# Altium schematic symbol library MCU_Microchip_ATtiny.SchLib: 223 symbols (part 2 of 4)
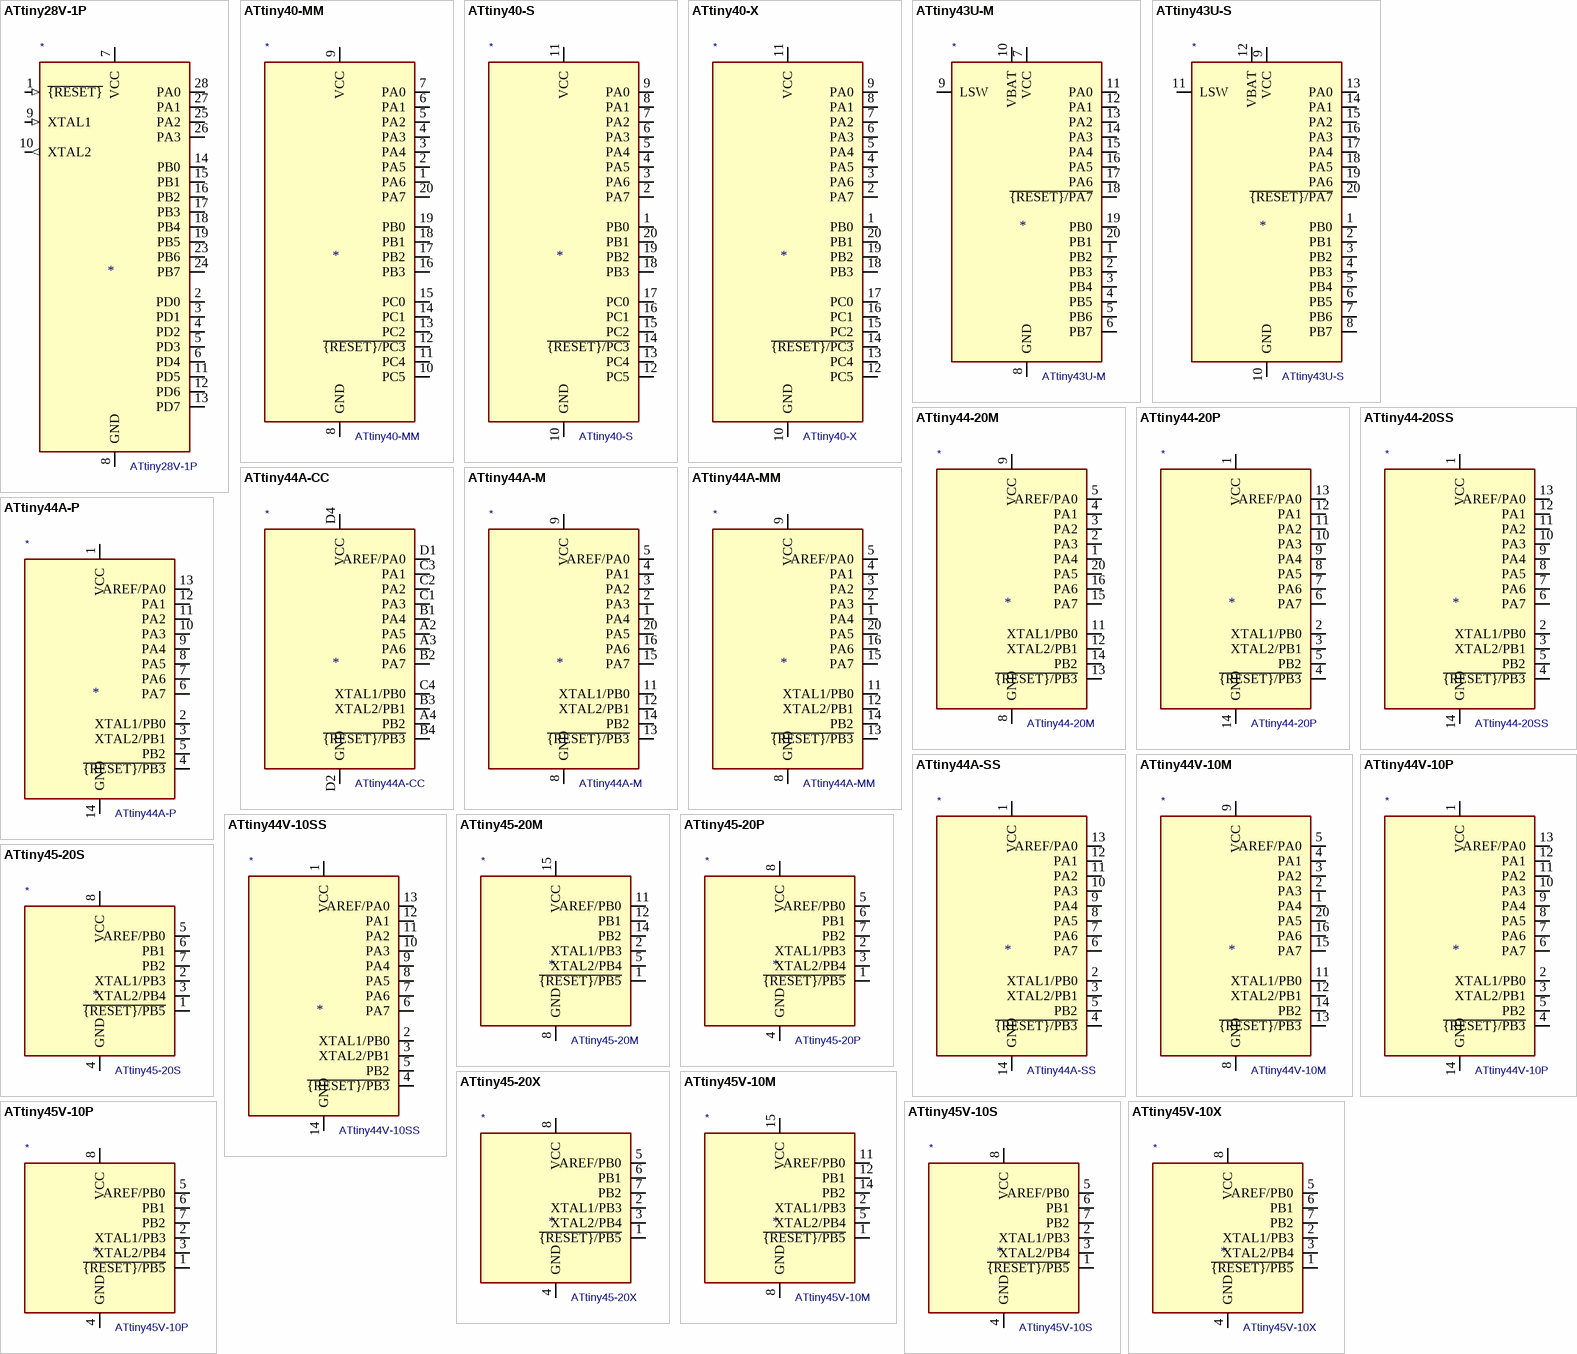
[diagram p10: symbols ATtiny28V-1P to ATtiny45V-10X]

## ATtiny45-20X
designator *  value ATtiny45-20X
ki_keywords: AVR 8bit Microcontroller tinyAVR; ki_description: 20MHz, 4kB Flash, 256B SRAM, 256B EEPROM, debugWIRE, TSSOP-8; ki_fp_filters: TSSOP*4.4x3mm*P0.65mm*; Footprint: Package_SO:TSSOP-8_4.4x3mm_P0.65mm; Supplier: http://ww1.microchip.com/downloads/en/DeviceDoc/atmel-2586-avr-8-bit-microcontroller-attiny25-attiny45-attiny85_datasheet.pdf
footprint TSSOP-8_4.4x3mm_P0.65mm
pins: 1 ~{{RESET}/PB5} (io), 2 XTAL1/PB3 (io), 3 XTAL2/PB4 (io), 4 GND (power), 5 AREF/PB0 (io), 6 PB1 (io), 7 PB2 (io), 8 VCC (power)

## ATtiny45V-10M
designator *  value ATtiny45V-10M
ki_keywords: AVR 8bit Microcontroller tinyAVR; ki_description: 10MHz, 4kB Flash, 256B SRAM, 256B EEPROM, debugWIRE, QFN-20; ki_fp_filters: QFN*1EP*4x4mm*P0.5mm*; Footprint: Package_DFN_QFN:QFN-20-1EP_4x4mm_P0.5mm_EP2.6x2.6mm; Supplier: http://ww1.microchip.com/downloads/en/DeviceDoc/atmel-2586-avr-8-bit-microcontroller-attiny25-attiny45-attiny85_datasheet.pdf
footprint QFN-20-1EP_4x4mm_P0.5mm_EP2.6x2.6mm
pins: 1 ~{{RESET}/PB5} (io), 2 XTAL1/PB3 (io), 3 NC (in) hidden, 4 NC (in) hidden, 5 XTAL2/PB4 (io), 6 NC (in) hidden, 7 NC (in) hidden, 8 GND (power), 9 NC (in) hidden, 10 NC (in) hidden, 11 AREF/PB0 (io), 12 PB1 (io), 13 NC (in) hidden, 14 PB2 (io), 15 VCC (power), 16 NC (in) hidden, 17 NC (in) hidden, 18 NC (in) hidden, 19 NC (in) hidden, 20 NC (in) hidden, 21 GND hidden

## ATtiny45V-10P
designator *  value ATtiny45V-10P
ki_keywords: AVR 8bit Microcontroller tinyAVR; ki_description: 10MHz, 4kB Flash, 256B SRAM, 256B EEPROM, debugWIRE, DIP-8; ki_fp_filters: DIP*W7.62mm*; Footprint: Package_DIP:DIP-8_W7.62mm; Supplier: http://ww1.microchip.com/downloads/en/DeviceDoc/atmel-2586-avr-8-bit-microcontroller-attiny25-attiny45-attiny85_datasheet.pdf
footprint DIP-8_W7.62mm
pins: 1 ~{{RESET}/PB5} (io), 2 XTAL1/PB3 (io), 3 XTAL2/PB4 (io), 4 GND (power), 5 AREF/PB0 (io), 6 PB1 (io), 7 PB2 (io), 8 VCC (power)

## ATtiny45V-10S
designator *  value ATtiny45V-10S
ki_keywords: AVR 8bit Microcontroller tinyAVR; ki_description: 10MHz, 4kB Flash, 256B SRAM, 256B EEPROM, debugWIRE, SOIC-8W; ki_fp_filters: SOIC*5.3x5.3mm*P1.27mm*; Footprint: Package_SO:SOIC-8W_5.3x5.3mm_P1.27mm; Supplier: http://ww1.microchip.com/downloads/en/DeviceDoc/atmel-2586-avr-8-bit-microcontroller-attiny25-attiny45-attiny85_datasheet.pdf
footprint SOIC-8W_5.3x5.3mm_P1.27mm
pins: 1 ~{{RESET}/PB5} (io), 2 XTAL1/PB3 (io), 3 XTAL2/PB4 (io), 4 GND (power), 5 AREF/PB0 (io), 6 PB1 (io), 7 PB2 (io), 8 VCC (power)

## ATtiny45V-10X
designator *  value ATtiny45V-10X
ki_keywords: AVR 8bit Microcontroller tinyAVR; ki_description: 10MHz, 4kB Flash, 256B SRAM, 256B EEPROM, debugWIRE, TSSOP-8; ki_fp_filters: TSSOP*4.4x3mm*P0.65mm*; Footprint: Package_SO:TSSOP-8_4.4x3mm_P0.65mm; Supplier: http://ww1.microchip.com/downloads/en/DeviceDoc/atmel-2586-avr-8-bit-microcontroller-attiny25-attiny45-attiny85_datasheet.pdf
footprint TSSOP-8_4.4x3mm_P0.65mm
pins: 1 ~{{RESET}/PB5} (io), 2 XTAL1/PB3 (io), 3 XTAL2/PB4 (io), 4 GND (power), 5 AREF/PB0 (io), 6 PB1 (io), 7 PB2 (io), 8 VCC (power)

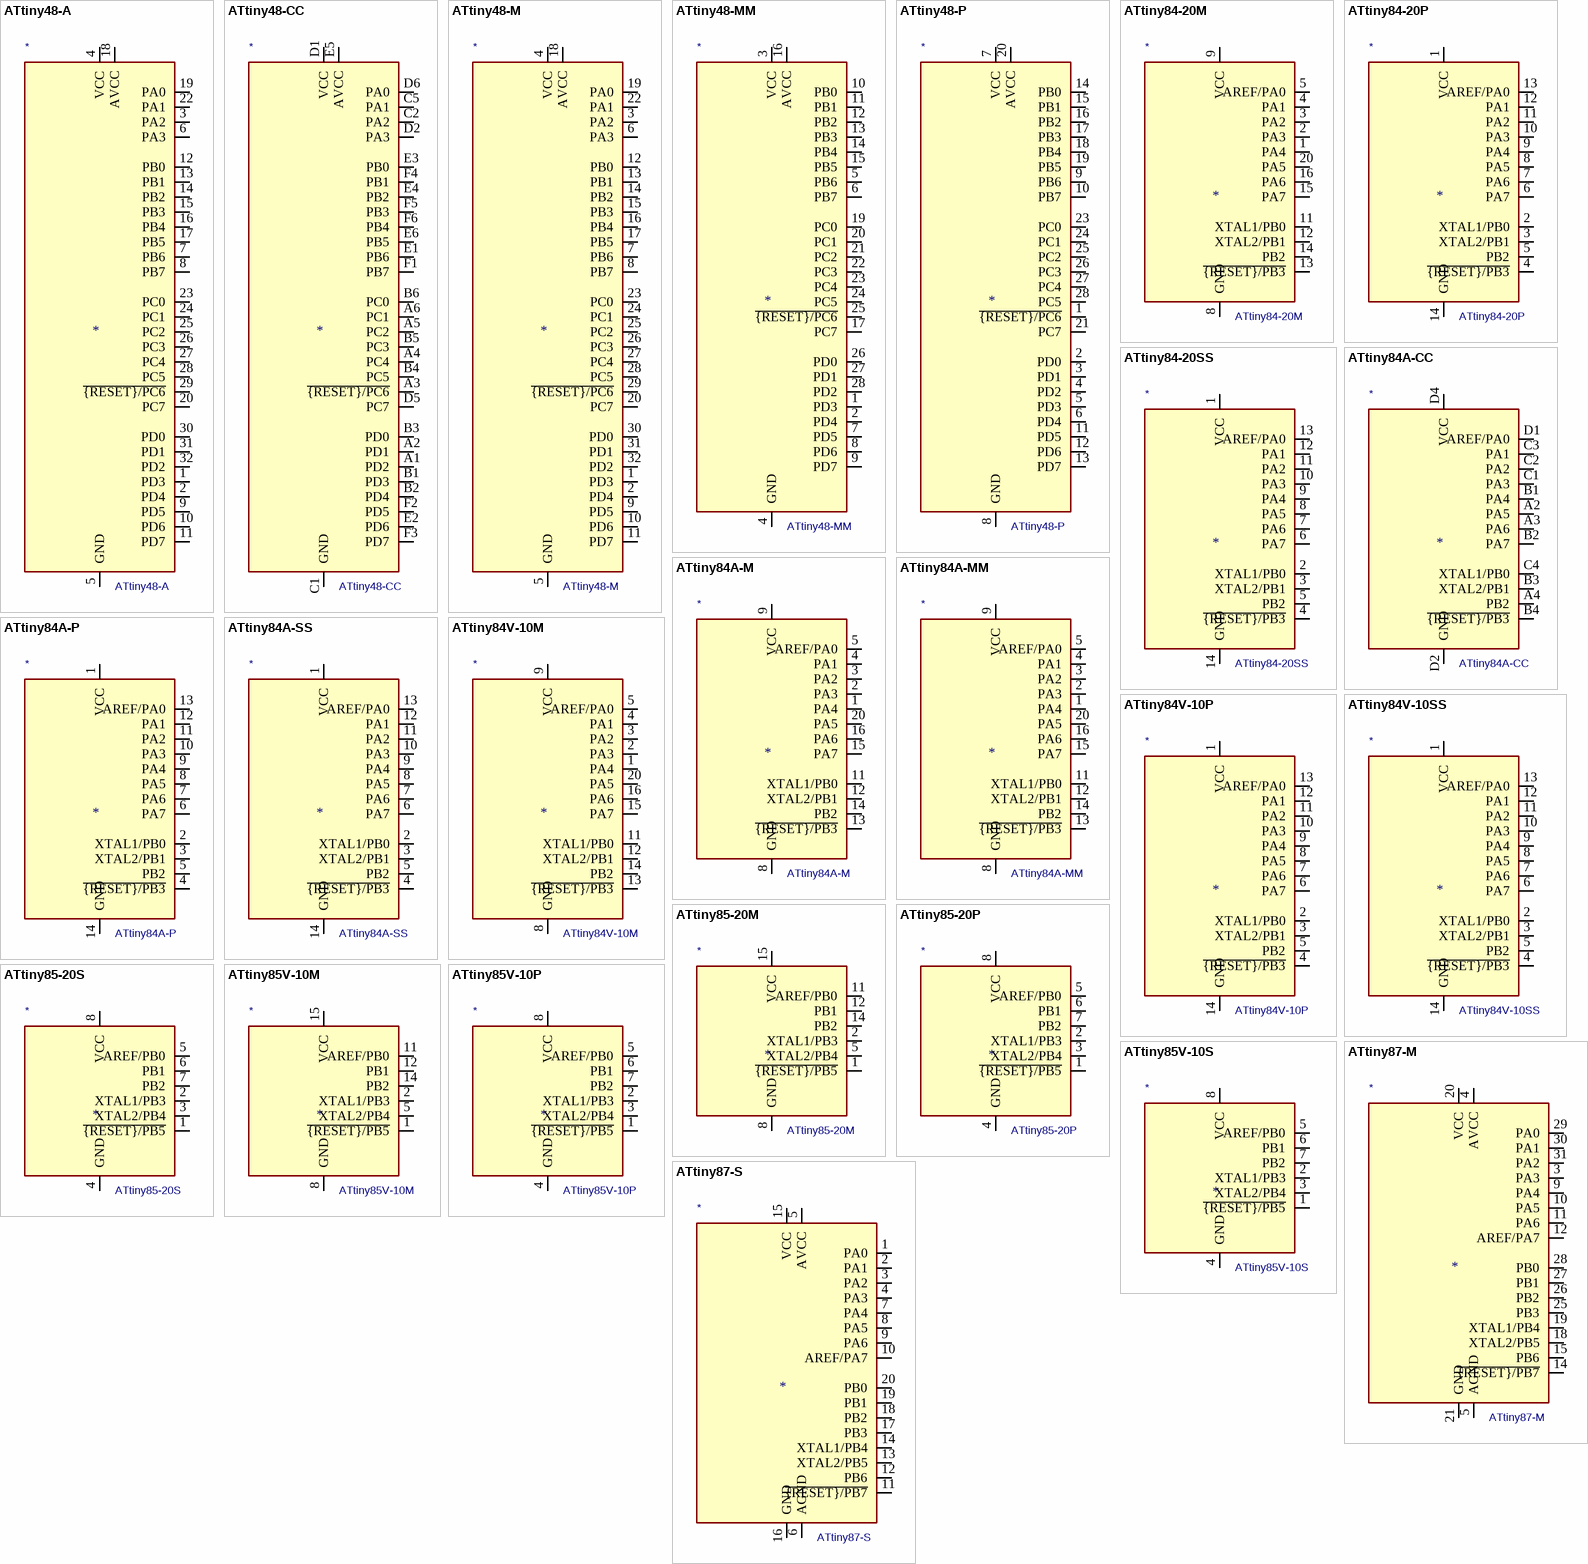
[diagram p3: symbols ATtiny48-A to ATtiny87-S]

## ATtiny48-A
designator *  value ATtiny48-A
ki_keywords: AVR 8bit Microcontroller tinyAVR; ki_description: 12MHz, 4kB Flash, 256B SRAM, 64B EEPROM, TQFP-32; ki_fp_filters: TQFP*7x7mm*P0.8mm*; Footprint: Package_QFP:TQFP-32_7x7mm_P0.8mm; Supplier: http://ww1.microchip.com/downloads/en/DeviceDoc/doc8008.pdf
footprint TQFP-32_7x7mm_P0.8mm
pins: 1 PD3 (io), 2 PD4 (io), 3 PA2 (io), 4 VCC (power), 5 GND (power), 6 PA3 (io), 7 PB6 (io), 8 PB7 (io), 9 PD5 (io), 10 PD6 (io), 11 PD7 (io), 12 PB0 (io), 13 PB1 (io), 14 PB2 (io), 15 PB3 (io), 16 PB4 (io), 17 PB5 (io), 18 AVCC (power), 19 PA0 (io), 20 PC7 (io), 21 GND hidden, 22 PA1 (io), 23 PC0 (io), 24 PC1 (io), 25 PC2 (io), 26 PC3 (io), 27 PC4 (io), 28 PC5 (io), 29 ~{{RESET}/PC6} (io), 30 PD0 (io), 31 PD1 (io), 32 PD2 (io)

## ATtiny48-CC
designator *  value ATtiny48-CC
ki_keywords: AVR 8bit Microcontroller tinyAVR; ki_description: 12MHz, 4kB Flash, 256B SRAM, 64B EEPROM, UFBGA-32; ki_fp_filters: UFBGA*4.0x4.0mm*Layout6x6*P0.5mm*; Footprint: Package_BGA:UFBGA-32_4.0x4.0mm_Layout6x6_P0.5mm; Supplier: http://ww1.microchip.com/downloads/en/DeviceDoc/doc8008.pdf
footprint UFBGA-32_4.0x4.0mm_Layout6x6_P0.5mm
pins: A1 PD2 (io), A2 PD1 (io), A3 ~{{RESET}/PC6} (io), A4 PC4 (io), A5 PC2 (io), A6 PC1 (io), B1 PD3 (io), B2 PD4 (io), B3 PD0 (io), B4 PC5 (io), B5 PC3 (io), B6 PC0 (io), C1 GND (power), C2 PA2 (io), C5 PA1 (io), C6 GND hidden, D1 VCC (power), D2 PA3 (io), D5 PC7 (io), D6 PA0 (io), E1 PB6 (io), E2 PD6 (io), E3 PB0 (io), E4 PB2 (io), E5 AVCC (power), E6 PB5 (io), F1 PB7 (io), F2 PD5 (io), F3 PD7 (io), F4 PB1 (io), F5 PB3 (io), F6 PB4 (io)

## ATtiny48-M
designator *  value ATtiny48-M
ki_keywords: AVR 8bit Microcontroller tinyAVR; ki_description: 12MHz, 4kB Flash, 256B SRAM, 64B EEPROM, QFN-32; ki_fp_filters: QFN*1EP*5x5mm*P0.5mm*; Footprint: Package_DFN_QFN:QFN-32-1EP_5x5mm_P0.5mm_EP3.1x3.1mm; Supplier: http://ww1.microchip.com/downloads/en/DeviceDoc/doc8008.pdf
footprint QFN-32-1EP_5x5mm_P0.5mm_EP3.1x3.1mm
pins: 1 PD3 (io), 2 PD4 (io), 3 PA2 (io), 4 VCC (power), 5 GND (power), 6 PA3 (io), 7 PB6 (io), 8 PB7 (io), 9 PD5 (io), 10 PD6 (io), 11 PD7 (io), 12 PB0 (io), 13 PB1 (io), 14 PB2 (io), 15 PB3 (io), 16 PB4 (io), 17 PB5 (io), 18 AVCC (power), 19 PA0 (io), 20 PC7 (io), 21 GND hidden, 22 PA1 (io), 23 PC0 (io), 24 PC1 (io), 25 PC2 (io), 26 PC3 (io), 27 PC4 (io), 28 PC5 (io), 29 ~{{RESET}/PC6} (io), 30 PD0 (io), 31 PD1 (io), 32 PD2 (io), 33 GND hidden

## ATtiny48-MM
designator *  value ATtiny48-MM
ki_keywords: AVR 8bit Microcontroller tinyAVR; ki_description: 12MHz, 4kB Flash, 256B SRAM, 64B EEPROM, QFN-28; ki_fp_filters: QFN*1EP*4x4mm*P0.45mm*; Footprint: Package_DFN_QFN:QFN-28-1EP_4x4mm_P0.45mm_EP2.4x2.4mm; Supplier: http://ww1.microchip.com/downloads/en/DeviceDoc/doc8008.pdf
footprint QFN-28-1EP_4x4mm_P0.45mm_EP2.4x2.4mm
pins: 1 PD3 (io), 2 PD4 (io), 3 VCC (power), 4 GND (power), 5 PB6 (io), 6 PB7 (io), 7 PD5 (io), 8 PD6 (io), 9 PD7 (io), 10 PB0 (io), 11 PB1 (io), 12 PB2 (io), 13 PB3 (io), 14 PB4 (io), 15 PB5 (io), 16 AVCC (power), 17 PC7 (io), 18 GND hidden, 19 PC0 (io), 20 PC1 (io), 21 PC2 (io), 22 PC3 (io), 23 PC4 (io), 24 PC5 (io), 25 ~{{RESET}/PC6} (io), 26 PD0 (io), 27 PD1 (io), 28 PD2 (io), 29 GND hidden

## ATtiny48-P
designator *  value ATtiny48-P
ki_keywords: AVR 8bit Microcontroller tinyAVR; ki_description: 12MHz, 4kB Flash, 256B SRAM, 64B EEPROM, DIP-28; ki_fp_filters: DIP*W7.62mm*; Footprint: Package_DIP:DIP-28_W7.62mm; Supplier: http://ww1.microchip.com/downloads/en/DeviceDoc/doc8008.pdf
footprint DIP-28_W7.62mm
pins: 1 ~{{RESET}/PC6} (io), 2 PD0 (io), 3 PD1 (io), 4 PD2 (io), 5 PD3 (io), 6 PD4 (io), 7 VCC (power), 8 GND (power), 9 PB6 (io), 10 PB7 (io), 11 PD5 (io), 12 PD6 (io), 13 PD7 (io), 14 PB0 (io), 15 PB1 (io), 16 PB2 (io), 17 PB3 (io), 18 PB4 (io), 19 PB5 (io), 20 AVCC (power), 21 PC7 (io), 22 GND hidden, 23 PC0 (io), 24 PC1 (io), 25 PC2 (io), 26 PC3 (io), 27 PC4 (io), 28 PC5 (io)

## ATtiny84-20M
designator *  value ATtiny84-20M
ki_keywords: AVR 8bit Microcontroller tinyAVR; ki_description: 20MHz, 8kB Flash, 512B SRAM, 512B EEPROM, debugWIRE, QFN-20; ki_fp_filters: QFN*1EP*4x4mm*P0.5mm*; Footprint: Package_DFN_QFN:QFN-20-1EP_4x4mm_P0.5mm_EP2.6x2.6mm; Supplier: http://ww1.microchip.com/downloads/en/DeviceDoc/doc8006.pdf
footprint QFN-20-1EP_4x4mm_P0.5mm_EP2.6x2.6mm
pins: 1 PA4 (io), 2 PA3 (io), 3 PA2 (io), 4 PA1 (io), 5 AREF/PA0 (io), 6 NC (in) hidden, 7 NC (in) hidden, 8 GND (power), 9 VCC (power), 10 NC (in) hidden, 11 XTAL1/PB0 (io), 12 XTAL2/PB1 (io), 13 ~{{RESET}/PB3} (io), 14 PB2 (io), 15 PA7 (io), 16 PA6 (io), 17 NC (in) hidden, 18 NC (in) hidden, 19 NC (in) hidden, 20 PA5 (io), 21 GND hidden

## ATtiny84-20P
designator *  value ATtiny84-20P
ki_keywords: AVR 8bit Microcontroller tinyAVR; ki_description: 20MHz, 8kB Flash, 512B SRAM, 512B EEPROM, debugWIRE, DIP-14; ki_fp_filters: DIP*W7.62mm*; Footprint: Package_DIP:DIP-14_W7.62mm; Supplier: http://ww1.microchip.com/downloads/en/DeviceDoc/doc8006.pdf
footprint DIP-14_W7.62mm
pins: 1 VCC (power), 2 XTAL1/PB0 (io), 3 XTAL2/PB1 (io), 4 ~{{RESET}/PB3} (io), 5 PB2 (io), 6 PA7 (io), 7 PA6 (io), 8 PA5 (io), 9 PA4 (io), 10 PA3 (io), 11 PA2 (io), 12 PA1 (io), 13 AREF/PA0 (io), 14 GND (power)

## ATtiny84-20SS
designator *  value ATtiny84-20SS
ki_keywords: AVR 8bit Microcontroller tinyAVR; ki_description: 20MHz, 8kB Flash, 512B SRAM, 512B EEPROM, debugWIRE, SOIC-14; ki_fp_filters: SOIC*3.9x8.7mm*P1.27mm*; Footprint: Package_SO:SOIC-14_3.9x8.7mm_P1.27mm; Supplier: http://ww1.microchip.com/downloads/en/DeviceDoc/doc8006.pdf
footprint SOIC-14_3.9x8.7mm_P1.27mm
pins: 1 VCC (power), 2 XTAL1/PB0 (io), 3 XTAL2/PB1 (io), 4 ~{{RESET}/PB3} (io), 5 PB2 (io), 6 PA7 (io), 7 PA6 (io), 8 PA5 (io), 9 PA4 (io), 10 PA3 (io), 11 PA2 (io), 12 PA1 (io), 13 AREF/PA0 (io), 14 GND (power)

## ATtiny84A-CC
designator *  value ATtiny84A-CC
ki_keywords: AVR 8bit Microcontroller tinyAVR; ki_description: 20MHz, 8kB Flash, 512B SRAM, 512B EEPROM, debugWIRE, UFBGA-15; ki_fp_filters: UFBGA*3.0x3.0mm*Layout4x4*P0.65mm*; Footprint: Package_BGA:UFBGA-15_3.0x3.0mm_Layout4x4_P0.65mm; Supplier: http://ww1.microchip.com/downloads/en/DeviceDoc/doc8183.pdf
footprint UFBGA-15_3.0x3.0mm_Layout4x4_P0.65mm
pins: A2 PA5 (io), A3 PA6 (io), A4 PB2 (io), B1 PA4 (io), B2 PA7 (io), B3 XTAL2/PB1 (io), B4 ~{{RESET}/PB3} (io), C1 PA3 (io), C2 PA2 (io), C3 PA1 (io), C4 XTAL1/PB0 (io), D1 AREF/PA0 (io), D2 GND (power), D3 GND hidden, D4 VCC (power)

## ATtiny84A-M
designator *  value ATtiny84A-M
ki_keywords: AVR 8bit Microcontroller tinyAVR; ki_description: 20MHz, 8kB Flash, 512B SRAM, 512B EEPROM, debugWIRE, QFN-20; ki_fp_filters: QFN*1EP*4x4mm*P0.5mm*; Footprint: Package_DFN_QFN:QFN-20-1EP_4x4mm_P0.5mm_EP2.6x2.6mm; Supplier: http://ww1.microchip.com/downloads/en/DeviceDoc/doc8183.pdf
footprint QFN-20-1EP_4x4mm_P0.5mm_EP2.6x2.6mm
pins: 1 PA4 (io), 2 PA3 (io), 3 PA2 (io), 4 PA1 (io), 5 AREF/PA0 (io), 6 NC (in) hidden, 7 NC (in) hidden, 8 GND (power), 9 VCC (power), 10 NC (in) hidden, 11 XTAL1/PB0 (io), 12 XTAL2/PB1 (io), 13 ~{{RESET}/PB3} (io), 14 PB2 (io), 15 PA7 (io), 16 PA6 (io), 17 NC (in) hidden, 18 NC (in) hidden, 19 NC (in) hidden, 20 PA5 (io), 21 GND hidden

## ATtiny84A-MM
designator *  value ATtiny84A-MM
ki_keywords: AVR 8bit Microcontroller tinyAVR; ki_description: 20MHz, 8kB Flash, 512B SRAM, 512B EEPROM, debugWIRE, QFN-20; ki_fp_filters: QFN*1EP*3x3mm*P0.45mm*; Footprint: Package_DFN_QFN:QFN-20-1EP_3x3mm_P0.45mm_EP1.6x1.6mm; Supplier: http://ww1.microchip.com/downloads/en/DeviceDoc/doc8183.pdf
footprint QFN-20-1EP_3x3mm_P0.45mm_EP1.6x1.6mm
pins: 1 PA4 (io), 2 PA3 (io), 3 PA2 (io), 4 PA1 (io), 5 AREF/PA0 (io), 6 NC (in) hidden, 7 NC (in) hidden, 8 GND (power), 9 VCC (power), 10 NC (in) hidden, 11 XTAL1/PB0 (io), 12 XTAL2/PB1 (io), 13 ~{{RESET}/PB3} (io), 14 PB2 (io), 15 PA7 (io), 16 PA6 (io), 17 NC (in) hidden, 18 NC (in) hidden, 19 NC (in) hidden, 20 PA5 (io), 21 GND hidden

## ATtiny84A-P
designator *  value ATtiny84A-P
ki_keywords: AVR 8bit Microcontroller tinyAVR; ki_description: 20MHz, 8kB Flash, 512B SRAM, 512B EEPROM, debugWIRE, DIP-14; ki_fp_filters: DIP*W7.62mm*; Footprint: Package_DIP:DIP-14_W7.62mm; Supplier: http://ww1.microchip.com/downloads/en/DeviceDoc/doc8183.pdf
footprint DIP-14_W7.62mm
pins: 1 VCC (power), 2 XTAL1/PB0 (io), 3 XTAL2/PB1 (io), 4 ~{{RESET}/PB3} (io), 5 PB2 (io), 6 PA7 (io), 7 PA6 (io), 8 PA5 (io), 9 PA4 (io), 10 PA3 (io), 11 PA2 (io), 12 PA1 (io), 13 AREF/PA0 (io), 14 GND (power)

## ATtiny84A-SS
designator *  value ATtiny84A-SS
ki_keywords: AVR 8bit Microcontroller tinyAVR; ki_description: 20MHz, 8kB Flash, 512B SRAM, 512B EEPROM, debugWIRE, SOIC-14; ki_fp_filters: SOIC*3.9x8.7mm*P1.27mm*; Footprint: Package_SO:SOIC-14_3.9x8.7mm_P1.27mm; Supplier: http://ww1.microchip.com/downloads/en/DeviceDoc/doc8183.pdf
footprint SOIC-14_3.9x8.7mm_P1.27mm
pins: 1 VCC (power), 2 XTAL1/PB0 (io), 3 XTAL2/PB1 (io), 4 ~{{RESET}/PB3} (io), 5 PB2 (io), 6 PA7 (io), 7 PA6 (io), 8 PA5 (io), 9 PA4 (io), 10 PA3 (io), 11 PA2 (io), 12 PA1 (io), 13 AREF/PA0 (io), 14 GND (power)

## ATtiny84V-10M
designator *  value ATtiny84V-10M
ki_keywords: AVR 8bit Microcontroller tinyAVR; ki_description: 10MHz, 8kB Flash, 512B SRAM, 512B EEPROM, debugWIRE, QFN-20; ki_fp_filters: QFN*1EP*4x4mm*P0.5mm*; Footprint: Package_DFN_QFN:QFN-20-1EP_4x4mm_P0.5mm_EP2.6x2.6mm; Supplier: http://ww1.microchip.com/downloads/en/DeviceDoc/doc8006.pdf
footprint QFN-20-1EP_4x4mm_P0.5mm_EP2.6x2.6mm
pins: 1 PA4 (io), 2 PA3 (io), 3 PA2 (io), 4 PA1 (io), 5 AREF/PA0 (io), 6 NC (in) hidden, 7 NC (in) hidden, 8 GND (power), 9 VCC (power), 10 NC (in) hidden, 11 XTAL1/PB0 (io), 12 XTAL2/PB1 (io), 13 ~{{RESET}/PB3} (io), 14 PB2 (io), 15 PA7 (io), 16 PA6 (io), 17 NC (in) hidden, 18 NC (in) hidden, 19 NC (in) hidden, 20 PA5 (io), 21 GND hidden

## ATtiny84V-10P
designator *  value ATtiny84V-10P
ki_keywords: AVR 8bit Microcontroller tinyAVR; ki_description: 10MHz, 8kB Flash, 512B SRAM, 512B EEPROM, debugWIRE, DIP-14; ki_fp_filters: DIP*W7.62mm*; Footprint: Package_DIP:DIP-14_W7.62mm; Supplier: http://ww1.microchip.com/downloads/en/DeviceDoc/doc8006.pdf
footprint DIP-14_W7.62mm
pins: 1 VCC (power), 2 XTAL1/PB0 (io), 3 XTAL2/PB1 (io), 4 ~{{RESET}/PB3} (io), 5 PB2 (io), 6 PA7 (io), 7 PA6 (io), 8 PA5 (io), 9 PA4 (io), 10 PA3 (io), 11 PA2 (io), 12 PA1 (io), 13 AREF/PA0 (io), 14 GND (power)

## ATtiny84V-10SS
designator *  value ATtiny84V-10SS
ki_keywords: AVR 8bit Microcontroller tinyAVR; ki_description: 10MHz, 8kB Flash, 512B SRAM, 512B EEPROM, debugWIRE, SOIC-14; ki_fp_filters: SOIC*3.9x8.7mm*P1.27mm*; Footprint: Package_SO:SOIC-14_3.9x8.7mm_P1.27mm; Supplier: http://ww1.microchip.com/downloads/en/DeviceDoc/doc8006.pdf
footprint SOIC-14_3.9x8.7mm_P1.27mm
pins: 1 VCC (power), 2 XTAL1/PB0 (io), 3 XTAL2/PB1 (io), 4 ~{{RESET}/PB3} (io), 5 PB2 (io), 6 PA7 (io), 7 PA6 (io), 8 PA5 (io), 9 PA4 (io), 10 PA3 (io), 11 PA2 (io), 12 PA1 (io), 13 AREF/PA0 (io), 14 GND (power)

## ATtiny85-20M
designator *  value ATtiny85-20M
ki_keywords: AVR 8bit Microcontroller tinyAVR; ki_description: 20MHz, 8kB Flash, 512B SRAM, 512B EEPROM, debugWIRE, QFN-20; ki_fp_filters: QFN*1EP*4x4mm*P0.5mm*; Footprint: Package_DFN_QFN:QFN-20-1EP_4x4mm_P0.5mm_EP2.6x2.6mm; Supplier: http://ww1.microchip.com/downloads/en/DeviceDoc/atmel-2586-avr-8-bit-microcontroller-attiny25-attiny45-attiny85_datasheet.pdf
footprint QFN-20-1EP_4x4mm_P0.5mm_EP2.6x2.6mm
pins: 1 ~{{RESET}/PB5} (io), 2 XTAL1/PB3 (io), 3 NC (in) hidden, 4 NC (in) hidden, 5 XTAL2/PB4 (io), 6 NC (in) hidden, 7 NC (in) hidden, 8 GND (power), 9 NC (in) hidden, 10 NC (in) hidden, 11 AREF/PB0 (io), 12 PB1 (io), 13 NC (in) hidden, 14 PB2 (io), 15 VCC (power), 16 NC (in) hidden, 17 NC (in) hidden, 18 NC (in) hidden, 19 NC (in) hidden, 20 NC (in) hidden, 21 GND hidden

## ATtiny85-20P
designator *  value ATtiny85-20P
ki_keywords: AVR 8bit Microcontroller tinyAVR; ki_description: 20MHz, 8kB Flash, 512B SRAM, 512B EEPROM, debugWIRE, DIP-8; ki_fp_filters: DIP*W7.62mm*; Footprint: Package_DIP:DIP-8_W7.62mm; Supplier: http://ww1.microchip.com/downloads/en/DeviceDoc/atmel-2586-avr-8-bit-microcontroller-attiny25-attiny45-attiny85_datasheet.pdf
footprint DIP-8_W7.62mm
pins: 1 ~{{RESET}/PB5} (io), 2 XTAL1/PB3 (io), 3 XTAL2/PB4 (io), 4 GND (power), 5 AREF/PB0 (io), 6 PB1 (io), 7 PB2 (io), 8 VCC (power)

## ATtiny85-20S
designator *  value ATtiny85-20S
ki_keywords: AVR 8bit Microcontroller tinyAVR; ki_description: 20MHz, 8kB Flash, 512B SRAM, 512B EEPROM, debugWIRE, SOIC-8W; ki_fp_filters: SOIC*5.3x5.3mm*P1.27mm*; Footprint: Package_SO:SOIC-8W_5.3x5.3mm_P1.27mm; Supplier: http://ww1.microchip.com/downloads/en/DeviceDoc/atmel-2586-avr-8-bit-microcontroller-attiny25-attiny45-attiny85_datasheet.pdf
footprint SOIC-8W_5.3x5.3mm_P1.27mm
pins: 1 ~{{RESET}/PB5} (io), 2 XTAL1/PB3 (io), 3 XTAL2/PB4 (io), 4 GND (power), 5 AREF/PB0 (io), 6 PB1 (io), 7 PB2 (io), 8 VCC (power)

## ATtiny85V-10M
designator *  value ATtiny85V-10M
ki_keywords: AVR 8bit Microcontroller tinyAVR; ki_description: 10MHz, 8kB Flash, 512B SRAM, 512B EEPROM, debugWIRE, QFN-20; ki_fp_filters: QFN*1EP*4x4mm*P0.5mm*; Footprint: Package_DFN_QFN:QFN-20-1EP_4x4mm_P0.5mm_EP2.6x2.6mm; Supplier: http://ww1.microchip.com/downloads/en/DeviceDoc/atmel-2586-avr-8-bit-microcontroller-attiny25-attiny45-attiny85_datasheet.pdf
footprint QFN-20-1EP_4x4mm_P0.5mm_EP2.6x2.6mm
pins: 1 ~{{RESET}/PB5} (io), 2 XTAL1/PB3 (io), 3 NC (in) hidden, 4 NC (in) hidden, 5 XTAL2/PB4 (io), 6 NC (in) hidden, 7 NC (in) hidden, 8 GND (power), 9 NC (in) hidden, 10 NC (in) hidden, 11 AREF/PB0 (io), 12 PB1 (io), 13 NC (in) hidden, 14 PB2 (io), 15 VCC (power), 16 NC (in) hidden, 17 NC (in) hidden, 18 NC (in) hidden, 19 NC (in) hidden, 20 NC (in) hidden, 21 GND hidden

## ATtiny85V-10P
designator *  value ATtiny85V-10P
ki_keywords: AVR 8bit Microcontroller tinyAVR; ki_description: 10MHz, 8kB Flash, 512B SRAM, 512B EEPROM, debugWIRE, DIP-8; ki_fp_filters: DIP*W7.62mm*; Footprint: Package_DIP:DIP-8_W7.62mm; Supplier: http://ww1.microchip.com/downloads/en/DeviceDoc/atmel-2586-avr-8-bit-microcontroller-attiny25-attiny45-attiny85_datasheet.pdf
footprint DIP-8_W7.62mm
pins: 1 ~{{RESET}/PB5} (io), 2 XTAL1/PB3 (io), 3 XTAL2/PB4 (io), 4 GND (power), 5 AREF/PB0 (io), 6 PB1 (io), 7 PB2 (io), 8 VCC (power)

## ATtiny85V-10S
designator *  value ATtiny85V-10S
ki_keywords: AVR 8bit Microcontroller tinyAVR; ki_description: 10MHz, 8kB Flash, 512B SRAM, 512B EEPROM, debugWIRE, SOIC-8W; ki_fp_filters: SOIC*5.3x5.3mm*P1.27mm*; Footprint: Package_SO:SOIC-8W_5.3x5.3mm_P1.27mm; Supplier: http://ww1.microchip.com/downloads/en/DeviceDoc/atmel-2586-avr-8-bit-microcontroller-attiny25-attiny45-attiny85_datasheet.pdf
footprint SOIC-8W_5.3x5.3mm_P1.27mm
pins: 1 ~{{RESET}/PB5} (io), 2 XTAL1/PB3 (io), 3 XTAL2/PB4 (io), 4 GND (power), 5 AREF/PB0 (io), 6 PB1 (io), 7 PB2 (io), 8 VCC (power)

## ATtiny87-M
designator *  value ATtiny87-M
ki_keywords: AVR 8bit Microcontroller tinyAVR Automotive; ki_description: 16MHz, 8kB Flash, 512B SRAM, 512B EEPROM, debugWIRE, QFN-32; ki_fp_filters: QFN*1EP*5x5mm*P0.5mm*; Footprint: Package_DFN_QFN:QFN-32-1EP_5x5mm_P0.5mm_EP3.1x3.1mm; Supplier: http://ww1.microchip.com/downloads/en/DeviceDoc/Atmel-8265-8-bit-AVR-Microcontroller-tinyAVR-ATtiny87-ATtiny167_datasheet.pdf
footprint QFN-32-1EP_5x5mm_P0.5mm_EP3.1x3.1mm
pins: 1 NC (in) hidden, 2 NC (in) hidden, 3 PA3 (io), 4 AVCC (power), 5 AGND (power), 6 NC (in) hidden, 7 NC (in) hidden, 8 NC (in) hidden, 9 PA4 (io), 10 PA5 (io), 11 PA6 (io), 12 AREF/PA7 (io), 13 NC (in) hidden, 14 ~{{RESET}/PB7} (io), 15 PB6 (io), 16 NC (in) hidden, 17 NC (in) hidden, 18 XTAL2/PB5 (io), 19 XTAL1/PB4 (io), 20 VCC (power), 21 GND (power), 22 NC (in) hidden, 23 NC (in) hidden, 24 NC (in) hidden, 25 PB3 (io), 26 PB2 (io), 27 PB1 (io), 28 PB0 (io), 29 PA0 (io), 30 PA1 (io), 31 PA2 (io), 32 NC (in) hidden, 33 GND hidden

## ATtiny87-S
designator *  value ATtiny87-S
ki_keywords: AVR 8bit Microcontroller tinyAVR Automotive; ki_description: 16MHz, 8kB Flash, 512B SRAM, 512B EEPROM, debugWIRE, SOIC-20; ki_fp_filters: SOIC*7.5x12.8mm*P1.27mm*; Footprint: Package_SO:SOIC-20W_7.5x12.8mm_P1.27mm; Supplier: http://ww1.microchip.com/downloads/en/DeviceDoc/Atmel-8265-8-bit-AVR-Microcontroller-tinyAVR-ATtiny87-ATtiny167_datasheet.pdf
footprint SOIC-20W_7.5x12.8mm_P1.27mm
pins: 1 PA0 (io), 2 PA1 (io), 3 PA2 (io), 4 PA3 (io), 5 AVCC (power), 6 AGND (power), 7 PA4 (io), 8 PA5 (io), 9 PA6 (io), 10 AREF/PA7 (io), 11 ~{{RESET}/PB7} (io), 12 PB6 (io), 13 XTAL2/PB5 (io), 14 XTAL1/PB4 (io), 15 VCC (power), 16 GND (power), 17 PB3 (io), 18 PB2 (io), 19 PB1 (io), 20 PB0 (io)

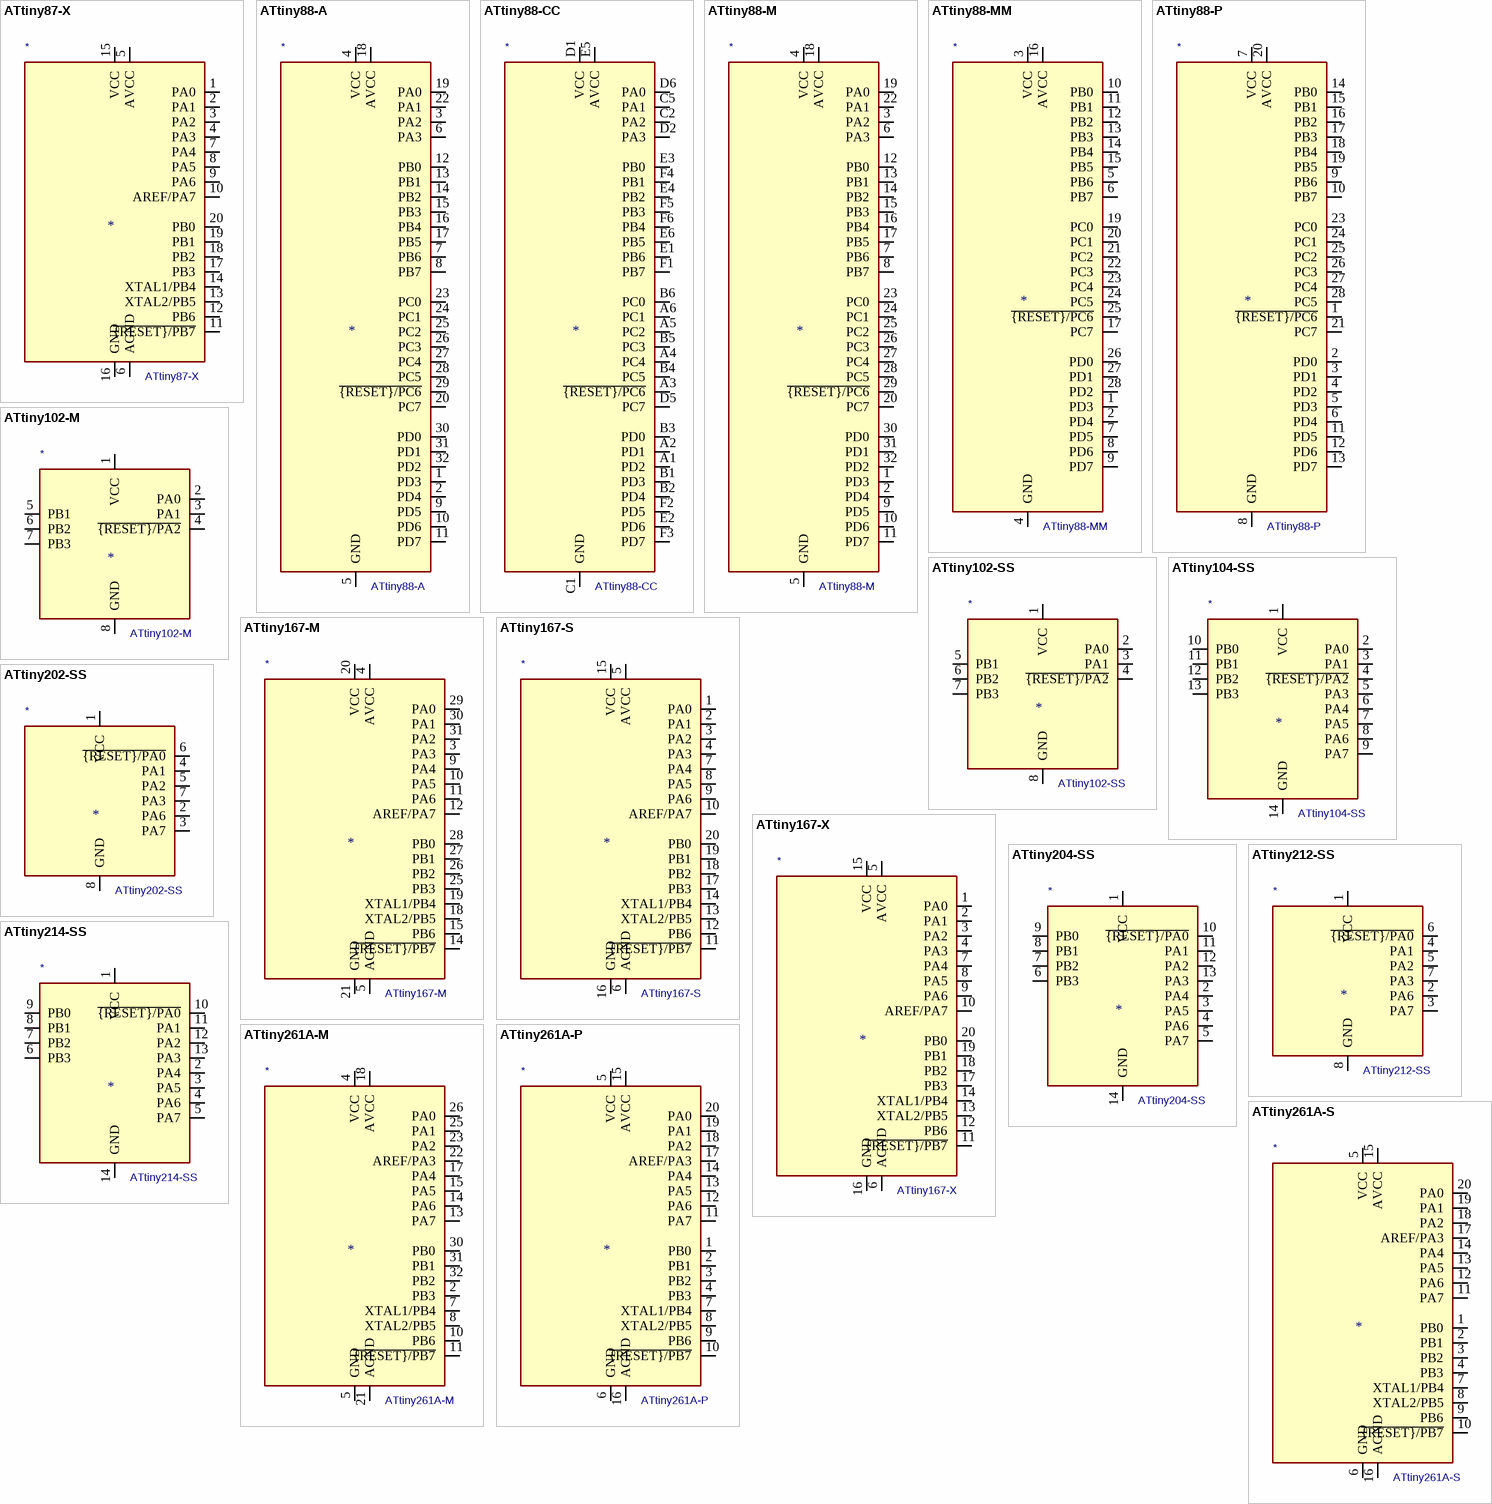
[diagram p4: symbols ATtiny87-X to ATtiny261A-S]

## ATtiny87-X
designator *  value ATtiny87-X
ki_keywords: AVR 8bit Microcontroller tinyAVR Automotive; ki_description: 16MHz, 8kB Flash, 512B SRAM, 512B EEPROM, debugWIRE, TSSOP-20; ki_fp_filters: TSSOP*4.4x6.5mm*P0.65mm*; Footprint: Package_SO:TSSOP-20_4.4x6.5mm_P0.65mm; Supplier: http://ww1.microchip.com/downloads/en/DeviceDoc/Atmel-8265-8-bit-AVR-Microcontroller-tinyAVR-ATtiny87-ATtiny167_datasheet.pdf
footprint TSSOP-20_4.4x6.5mm_P0.65mm
pins: 1 PA0 (io), 2 PA1 (io), 3 PA2 (io), 4 PA3 (io), 5 AVCC (power), 6 AGND (power), 7 PA4 (io), 8 PA5 (io), 9 PA6 (io), 10 AREF/PA7 (io), 11 ~{{RESET}/PB7} (io), 12 PB6 (io), 13 XTAL2/PB5 (io), 14 XTAL1/PB4 (io), 15 VCC (power), 16 GND (power), 17 PB3 (io), 18 PB2 (io), 19 PB1 (io), 20 PB0 (io)

## ATtiny88-A
designator *  value ATtiny88-A
ki_keywords: AVR 8bit Microcontroller tinyAVR; ki_description: 12MHz, 8kB Flash, 512B SRAM, 64B EEPROM, TQFP-32; ki_fp_filters: TQFP*7x7mm*P0.8mm*; Footprint: Package_QFP:TQFP-32_7x7mm_P0.8mm; Supplier: http://ww1.microchip.com/downloads/en/DeviceDoc/doc8008.pdf
footprint TQFP-32_7x7mm_P0.8mm
pins: 1 PD3 (io), 2 PD4 (io), 3 PA2 (io), 4 VCC (power), 5 GND (power), 6 PA3 (io), 7 PB6 (io), 8 PB7 (io), 9 PD5 (io), 10 PD6 (io), 11 PD7 (io), 12 PB0 (io), 13 PB1 (io), 14 PB2 (io), 15 PB3 (io), 16 PB4 (io), 17 PB5 (io), 18 AVCC (power), 19 PA0 (io), 20 PC7 (io), 21 GND hidden, 22 PA1 (io), 23 PC0 (io), 24 PC1 (io), 25 PC2 (io), 26 PC3 (io), 27 PC4 (io), 28 PC5 (io), 29 ~{{RESET}/PC6} (io), 30 PD0 (io), 31 PD1 (io), 32 PD2 (io)

## ATtiny88-CC
designator *  value ATtiny88-CC
ki_keywords: AVR 8bit Microcontroller tinyAVR; ki_description: 12MHz, 8kB Flash, 512B SRAM, 64B EEPROM, UFBGA-32; ki_fp_filters: UFBGA*4.0x4.0mm*Layout6x6*P0.5mm*; Footprint: Package_BGA:UFBGA-32_4.0x4.0mm_Layout6x6_P0.5mm; Supplier: http://ww1.microchip.com/downloads/en/DeviceDoc/doc8008.pdf
footprint UFBGA-32_4.0x4.0mm_Layout6x6_P0.5mm
pins: A1 PD2 (io), A2 PD1 (io), A3 ~{{RESET}/PC6} (io), A4 PC4 (io), A5 PC2 (io), A6 PC1 (io), B1 PD3 (io), B2 PD4 (io), B3 PD0 (io), B4 PC5 (io), B5 PC3 (io), B6 PC0 (io), C1 GND (power), C2 PA2 (io), C5 PA1 (io), C6 GND hidden, D1 VCC (power), D2 PA3 (io), D5 PC7 (io), D6 PA0 (io), E1 PB6 (io), E2 PD6 (io), E3 PB0 (io), E4 PB2 (io), E5 AVCC (power), E6 PB5 (io), F1 PB7 (io), F2 PD5 (io), F3 PD7 (io), F4 PB1 (io), F5 PB3 (io), F6 PB4 (io)

## ATtiny88-M
designator *  value ATtiny88-M
ki_keywords: AVR 8bit Microcontroller tinyAVR; ki_description: 12MHz, 8kB Flash, 512B SRAM, 64B EEPROM, QFN-32; ki_fp_filters: QFN*1EP*5x5mm*P0.5mm*; Footprint: Package_DFN_QFN:QFN-32-1EP_5x5mm_P0.5mm_EP3.1x3.1mm; Supplier: http://ww1.microchip.com/downloads/en/DeviceDoc/doc8008.pdf
footprint QFN-32-1EP_5x5mm_P0.5mm_EP3.1x3.1mm
pins: 1 PD3 (io), 2 PD4 (io), 3 PA2 (io), 4 VCC (power), 5 GND (power), 6 PA3 (io), 7 PB6 (io), 8 PB7 (io), 9 PD5 (io), 10 PD6 (io), 11 PD7 (io), 12 PB0 (io), 13 PB1 (io), 14 PB2 (io), 15 PB3 (io), 16 PB4 (io), 17 PB5 (io), 18 AVCC (power), 19 PA0 (io), 20 PC7 (io), 21 GND hidden, 22 PA1 (io), 23 PC0 (io), 24 PC1 (io), 25 PC2 (io), 26 PC3 (io), 27 PC4 (io), 28 PC5 (io), 29 ~{{RESET}/PC6} (io), 30 PD0 (io), 31 PD1 (io), 32 PD2 (io), 33 GND hidden

## ATtiny88-MM
designator *  value ATtiny88-MM
ki_keywords: AVR 8bit Microcontroller tinyAVR; ki_description: 12MHz, 8kB Flash, 512B SRAM, 64B EEPROM, QFN-28; ki_fp_filters: QFN*1EP*4x4mm*P0.45mm*; Footprint: Package_DFN_QFN:QFN-28-1EP_4x4mm_P0.45mm_EP2.4x2.4mm; Supplier: http://ww1.microchip.com/downloads/en/DeviceDoc/doc8008.pdf
footprint QFN-28-1EP_4x4mm_P0.45mm_EP2.4x2.4mm
pins: 1 PD3 (io), 2 PD4 (io), 3 VCC (power), 4 GND (power), 5 PB6 (io), 6 PB7 (io), 7 PD5 (io), 8 PD6 (io), 9 PD7 (io), 10 PB0 (io), 11 PB1 (io), 12 PB2 (io), 13 PB3 (io), 14 PB4 (io), 15 PB5 (io), 16 AVCC (power), 17 PC7 (io), 18 GND hidden, 19 PC0 (io), 20 PC1 (io), 21 PC2 (io), 22 PC3 (io), 23 PC4 (io), 24 PC5 (io), 25 ~{{RESET}/PC6} (io), 26 PD0 (io), 27 PD1 (io), 28 PD2 (io), 29 GND hidden

## ATtiny88-P
designator *  value ATtiny88-P
ki_keywords: AVR 8bit Microcontroller tinyAVR; ki_description: 12MHz, 8kB Flash, 512B SRAM, 64B EEPROM, DIP-28; ki_fp_filters: DIP*W7.62mm*; Footprint: Package_DIP:DIP-28_W7.62mm; Supplier: http://ww1.microchip.com/downloads/en/DeviceDoc/doc8008.pdf
footprint DIP-28_W7.62mm
pins: 1 ~{{RESET}/PC6} (io), 2 PD0 (io), 3 PD1 (io), 4 PD2 (io), 5 PD3 (io), 6 PD4 (io), 7 VCC (power), 8 GND (power), 9 PB6 (io), 10 PB7 (io), 11 PD5 (io), 12 PD6 (io), 13 PD7 (io), 14 PB0 (io), 15 PB1 (io), 16 PB2 (io), 17 PB3 (io), 18 PB4 (io), 19 PB5 (io), 20 AVCC (power), 21 PC7 (io), 22 GND hidden, 23 PC0 (io), 24 PC1 (io), 25 PC2 (io), 26 PC3 (io), 27 PC4 (io), 28 PC5 (io)

## ATtiny102-M
designator *  value ATtiny102-M
ki_keywords: AVR 8bit Microcontroller tinyAVR; ki_description: 12MHz, 1kB Flash, 32B SRAM, No EEPROM, DFN-8; ki_fp_filters: DFN*1EP*3x2mm*P0.5mm*; Footprint: Package_DFN_QFN:DFN-8-1EP_3x2mm_P0.5mm_EP1.3x1.5mm; Supplier: http://ww1.microchip.com/downloads/en/DeviceDoc/Atmel-42505-8-bit-AVR-Microcontrollers-ATtiny102-ATtiny104_Datasheet.pdf
footprint DFN-8-1EP_3x2mm_P0.5mm_EP1.3x1.5mm
pins: 1 VCC (power), 2 PA0 (io), 3 PA1 (io), 4 ~{{RESET}/PA2} (io), 5 PB1 (io), 6 PB2 (io), 7 PB3 (io), 8 GND (power), 9 NC (in) hidden

## ATtiny102-SS
designator *  value ATtiny102-SS
ki_keywords: AVR 8bit Microcontroller tinyAVR; ki_description: 12MHz, 1kB Flash, 32B SRAM, No EEPROM, SOIC-8; ki_fp_filters: SOIC*3.9x4.9mm*P1.27mm*; Footprint: Package_SO:SOIC-8_3.9x4.9mm_P1.27mm; Supplier: http://ww1.microchip.com/downloads/en/DeviceDoc/Atmel-42505-8-bit-AVR-Microcontrollers-ATtiny102-ATtiny104_Datasheet.pdf
footprint SOIC-8_3.9x4.9mm_P1.27mm
pins: 1 VCC (power), 2 PA0 (io), 3 PA1 (io), 4 ~{{RESET}/PA2} (io), 5 PB1 (io), 6 PB2 (io), 7 PB3 (io), 8 GND (power)

## ATtiny104-SS
designator *  value ATtiny104-SS
ki_keywords: AVR 8bit Microcontroller tinyAVR; ki_description: 12MHz, 1kB Flash, 32B SRAM, No EEPROM, SOIC-14; ki_fp_filters: SOIC*3.9x8.7mm*P1.27mm*; Footprint: Package_SO:SOIC-14_3.9x8.7mm_P1.27mm; Supplier: http://ww1.microchip.com/downloads/en/DeviceDoc/Atmel-42505-8-bit-AVR-Microcontrollers-ATtiny102-ATtiny104_Datasheet.pdf
footprint SOIC-14_3.9x8.7mm_P1.27mm
pins: 1 VCC (power), 2 PA0 (io), 3 PA1 (io), 4 ~{{RESET}/PA2} (io), 5 PA3 (io), 6 PA4 (io), 7 PA5 (io), 8 PA6 (io), 9 PA7 (io), 10 PB0 (io), 11 PB1 (io), 12 PB2 (io), 13 PB3 (io), 14 GND (power)

## ATtiny167-M
designator *  value ATtiny167-M
ki_keywords: AVR 8bit Microcontroller tinyAVR Automotive; ki_description: 16MHz, 16kB Flash, 512B SRAM, 512B EEPROM, debugWIRE, QFN-32; ki_fp_filters: QFN*1EP*5x5mm*P0.5mm*; Footprint: Package_DFN_QFN:QFN-32-1EP_5x5mm_P0.5mm_EP3.1x3.1mm; Supplier: http://ww1.microchip.com/downloads/en/DeviceDoc/Atmel-8265-8-bit-AVR-Microcontroller-tinyAVR-ATtiny87-ATtiny167_datasheet.pdf
footprint QFN-32-1EP_5x5mm_P0.5mm_EP3.1x3.1mm
pins: 1 NC (in) hidden, 2 NC (in) hidden, 3 PA3 (io), 4 AVCC (power), 5 AGND (power), 6 NC (in) hidden, 7 NC (in) hidden, 8 NC (in) hidden, 9 PA4 (io), 10 PA5 (io), 11 PA6 (io), 12 AREF/PA7 (io), 13 NC (in) hidden, 14 ~{{RESET}/PB7} (io), 15 PB6 (io), 16 NC (in) hidden, 17 NC (in) hidden, 18 XTAL2/PB5 (io), 19 XTAL1/PB4 (io), 20 VCC (power), 21 GND (power), 22 NC (in) hidden, 23 NC (in) hidden, 24 NC (in) hidden, 25 PB3 (io), 26 PB2 (io), 27 PB1 (io), 28 PB0 (io), 29 PA0 (io), 30 PA1 (io), 31 PA2 (io), 32 NC (in) hidden, 33 GND hidden

## ATtiny167-S
designator *  value ATtiny167-S
ki_keywords: AVR 8bit Microcontroller tinyAVR Automotive; ki_description: 16MHz, 16kB Flash, 512B SRAM, 512B EEPROM, debugWIRE, SOIC-20; ki_fp_filters: SOIC*7.5x12.8mm*P1.27mm*; Footprint: Package_SO:SOIC-20W_7.5x12.8mm_P1.27mm; Supplier: http://ww1.microchip.com/downloads/en/DeviceDoc/Atmel-8265-8-bit-AVR-Microcontroller-tinyAVR-ATtiny87-ATtiny167_datasheet.pdf
footprint SOIC-20W_7.5x12.8mm_P1.27mm
pins: 1 PA0 (io), 2 PA1 (io), 3 PA2 (io), 4 PA3 (io), 5 AVCC (power), 6 AGND (power), 7 PA4 (io), 8 PA5 (io), 9 PA6 (io), 10 AREF/PA7 (io), 11 ~{{RESET}/PB7} (io), 12 PB6 (io), 13 XTAL2/PB5 (io), 14 XTAL1/PB4 (io), 15 VCC (power), 16 GND (power), 17 PB3 (io), 18 PB2 (io), 19 PB1 (io), 20 PB0 (io)

## ATtiny167-X
designator *  value ATtiny167-X
ki_keywords: AVR 8bit Microcontroller tinyAVR Automotive; ki_description: 16MHz, 16kB Flash, 512B SRAM, 512B EEPROM, debugWIRE, TSSOP-20; ki_fp_filters: TSSOP*4.4x6.5mm*P0.65mm*; Footprint: Package_SO:TSSOP-20_4.4x6.5mm_P0.65mm; Supplier: http://ww1.microchip.com/downloads/en/DeviceDoc/Atmel-8265-8-bit-AVR-Microcontroller-tinyAVR-ATtiny87-ATtiny167_datasheet.pdf
footprint TSSOP-20_4.4x6.5mm_P0.65mm
pins: 1 PA0 (io), 2 PA1 (io), 3 PA2 (io), 4 PA3 (io), 5 AVCC (power), 6 AGND (power), 7 PA4 (io), 8 PA5 (io), 9 PA6 (io), 10 AREF/PA7 (io), 11 ~{{RESET}/PB7} (io), 12 PB6 (io), 13 XTAL2/PB5 (io), 14 XTAL1/PB4 (io), 15 VCC (power), 16 GND (power), 17 PB3 (io), 18 PB2 (io), 19 PB1 (io), 20 PB0 (io)

## ATtiny202-SS
designator *  value ATtiny202-SS
ki_keywords: AVR 8bit Microcontroller tinyAVR; ki_description: 20MHz, 2kB Flash, 128B SRAM, 64B EEPROM, SOIC-8; ki_fp_filters: SOIC*3.9x4.9mm*P1.27mm*; Footprint: Package_SO:SOIC-8_3.9x4.9mm_P1.27mm; Supplier: http://ww1.microchip.com/downloads/en/DeviceDoc/ATtiny202-402-AVR-MCU-with-Core-Independent-Peripherals_and-picoPower-40001969A.pdf
footprint SOIC-8_3.9x4.9mm_P1.27mm
pins: 1 VCC (power), 2 PA6 (io), 3 PA7 (io), 4 PA1 (io), 5 PA2 (io), 6 ~{{RESET}/PA0} (io), 7 PA3 (io), 8 GND (power)

## ATtiny204-SS
designator *  value ATtiny204-SS
ki_keywords: AVR 8bit Microcontroller tinyAVR; ki_description: 20MHz, 2kB Flash, 128B SRAM, 64B EEPROM, SOIC-14; ki_fp_filters: SOIC*3.9x8.7mm*P1.27mm*; Footprint: Package_SO:SOIC-14_3.9x8.7mm_P1.27mm; Supplier: http://ww1.microchip.com/downloads/en/DeviceDoc/50002687A.pdf
footprint SOIC-14_3.9x8.7mm_P1.27mm
pins: 1 VCC (power), 2 PA4 (io), 3 PA5 (io), 4 PA6 (io), 5 PA7 (io), 6 PB3 (io), 7 PB2 (io), 8 PB1 (io), 9 PB0 (io), 10 ~{{RESET}/PA0} (io), 11 PA1 (io), 12 PA2 (io), 13 PA3 (io), 14 GND (power)

## ATtiny212-SS
designator *  value ATtiny212-SS
ki_keywords: AVR 8bit Microcontroller tinyAVR; ki_description: 20MHz, 2kB Flash, 128B SRAM, 64B EEPROM, SOIC-8; ki_fp_filters: SOIC*3.9x4.9mm*P1.27mm*; Footprint: Package_SO:SOIC-8_3.9x4.9mm_P1.27mm; Supplier: http://ww1.microchip.com/downloads/en/DeviceDoc/40001911A.pdf
footprint SOIC-8_3.9x4.9mm_P1.27mm
pins: 1 VCC (power), 2 PA6 (io), 3 PA7 (io), 4 PA1 (io), 5 PA2 (io), 6 ~{{RESET}/PA0} (io), 7 PA3 (io), 8 GND (power)

## ATtiny214-SS
designator *  value ATtiny214-SS
ki_keywords: AVR 8bit Microcontroller tinyAVR; ki_description: 20MHz, 2kB Flash, 128B SRAM, 64B EEPROM, SOIC-14; ki_fp_filters: SOIC*3.9x8.7mm*P1.27mm*; Footprint: Package_SO:SOIC-14_3.9x8.7mm_P1.27mm; Supplier: http://ww1.microchip.com/downloads/en/DeviceDoc/40001912A.pdf
footprint SOIC-14_3.9x8.7mm_P1.27mm
pins: 1 VCC (power), 2 PA4 (io), 3 PA5 (io), 4 PA6 (io), 5 PA7 (io), 6 PB3 (io), 7 PB2 (io), 8 PB1 (io), 9 PB0 (io), 10 ~{{RESET}/PA0} (io), 11 PA1 (io), 12 PA2 (io), 13 PA3 (io), 14 GND (power)

## ATtiny261A-M
designator *  value ATtiny261A-M
ki_keywords: AVR 8bit Microcontroller tinyAVR; ki_description: 20MHz, 2kB Flash, 128B SRAM, 128B EEPROM, QFN-32; ki_fp_filters: QFN*1EP*5x5mm*P0.5mm*; Footprint: Package_DFN_QFN:QFN-32-1EP_5x5mm_P0.5mm_EP3.1x3.1mm; Supplier: http://ww1.microchip.com/downloads/en/DeviceDoc/doc8197.pdf
footprint QFN-32-1EP_5x5mm_P0.5mm_EP3.1x3.1mm
pins: 1 NC (in) hidden, 2 PB3 (io), 3 NC (in) hidden, 4 VCC (power), 5 GND (power), 6 NC (in) hidden, 7 XTAL1/PB4 (io), 8 XTAL2/PB5 (io), 9 NC (in) hidden, 10 PB6 (io), 11 ~{{RESET}/PB7} (io), 12 NC (in) hidden, 13 PA7 (io), 14 PA6 (io), 15 PA5 (io), 16 NC (in) hidden, 17 PA4 (io), 18 AVCC (power), 19 NC (in) hidden, 20 NC (in) hidden, 21 AGND (power), 22 AREF/PA3 (io), 23 PA2 (io), 24 NC (in) hidden, 25 PA1 (io), 26 PA0 (io), 27 NC (in) hidden, 28 NC (in) hidden, 29 NC (in) hidden, 30 PB0 (io), 31 PB1 (io), 32 PB2 (io), 33 GND hidden

## ATtiny261A-P
designator *  value ATtiny261A-P
ki_keywords: AVR 8bit Microcontroller tinyAVR; ki_description: 20MHz, 2kB Flash, 128B SRAM, 128B EEPROM, DIP-20; ki_fp_filters: DIP*W7.62mm*; Footprint: Package_DIP:DIP-20_W7.62mm; Supplier: http://ww1.microchip.com/downloads/en/DeviceDoc/doc8197.pdf
footprint DIP-20_W7.62mm
pins: 1 PB0 (io), 2 PB1 (io), 3 PB2 (io), 4 PB3 (io), 5 VCC (power), 6 GND (power), 7 XTAL1/PB4 (io), 8 XTAL2/PB5 (io), 9 PB6 (io), 10 ~{{RESET}/PB7} (io), 11 PA7 (io), 12 PA6 (io), 13 PA5 (io), 14 PA4 (io), 15 AVCC (power), 16 AGND (power), 17 AREF/PA3 (io), 18 PA2 (io), 19 PA1 (io), 20 PA0 (io)

## ATtiny261A-S
designator *  value ATtiny261A-S
ki_keywords: AVR 8bit Microcontroller tinyAVR; ki_description: 20MHz, 2kB Flash, 128B SRAM, 128B EEPROM, SOIC-20; ki_fp_filters: SOIC*7.5x12.8mm*P1.27mm*; Footprint: Package_SO:SOIC-20W_7.5x12.8mm_P1.27mm; Supplier: http://ww1.microchip.com/downloads/en/DeviceDoc/doc8197.pdf
footprint SOIC-20W_7.5x12.8mm_P1.27mm
pins: 1 PB0 (io), 2 PB1 (io), 3 PB2 (io), 4 PB3 (io), 5 VCC (power), 6 GND (power), 7 XTAL1/PB4 (io), 8 XTAL2/PB5 (io), 9 PB6 (io), 10 ~{{RESET}/PB7} (io), 11 PA7 (io), 12 PA6 (io), 13 PA5 (io), 14 PA4 (io), 15 AVCC (power), 16 AGND (power), 17 AREF/PA3 (io), 18 PA2 (io), 19 PA1 (io), 20 PA0 (io)

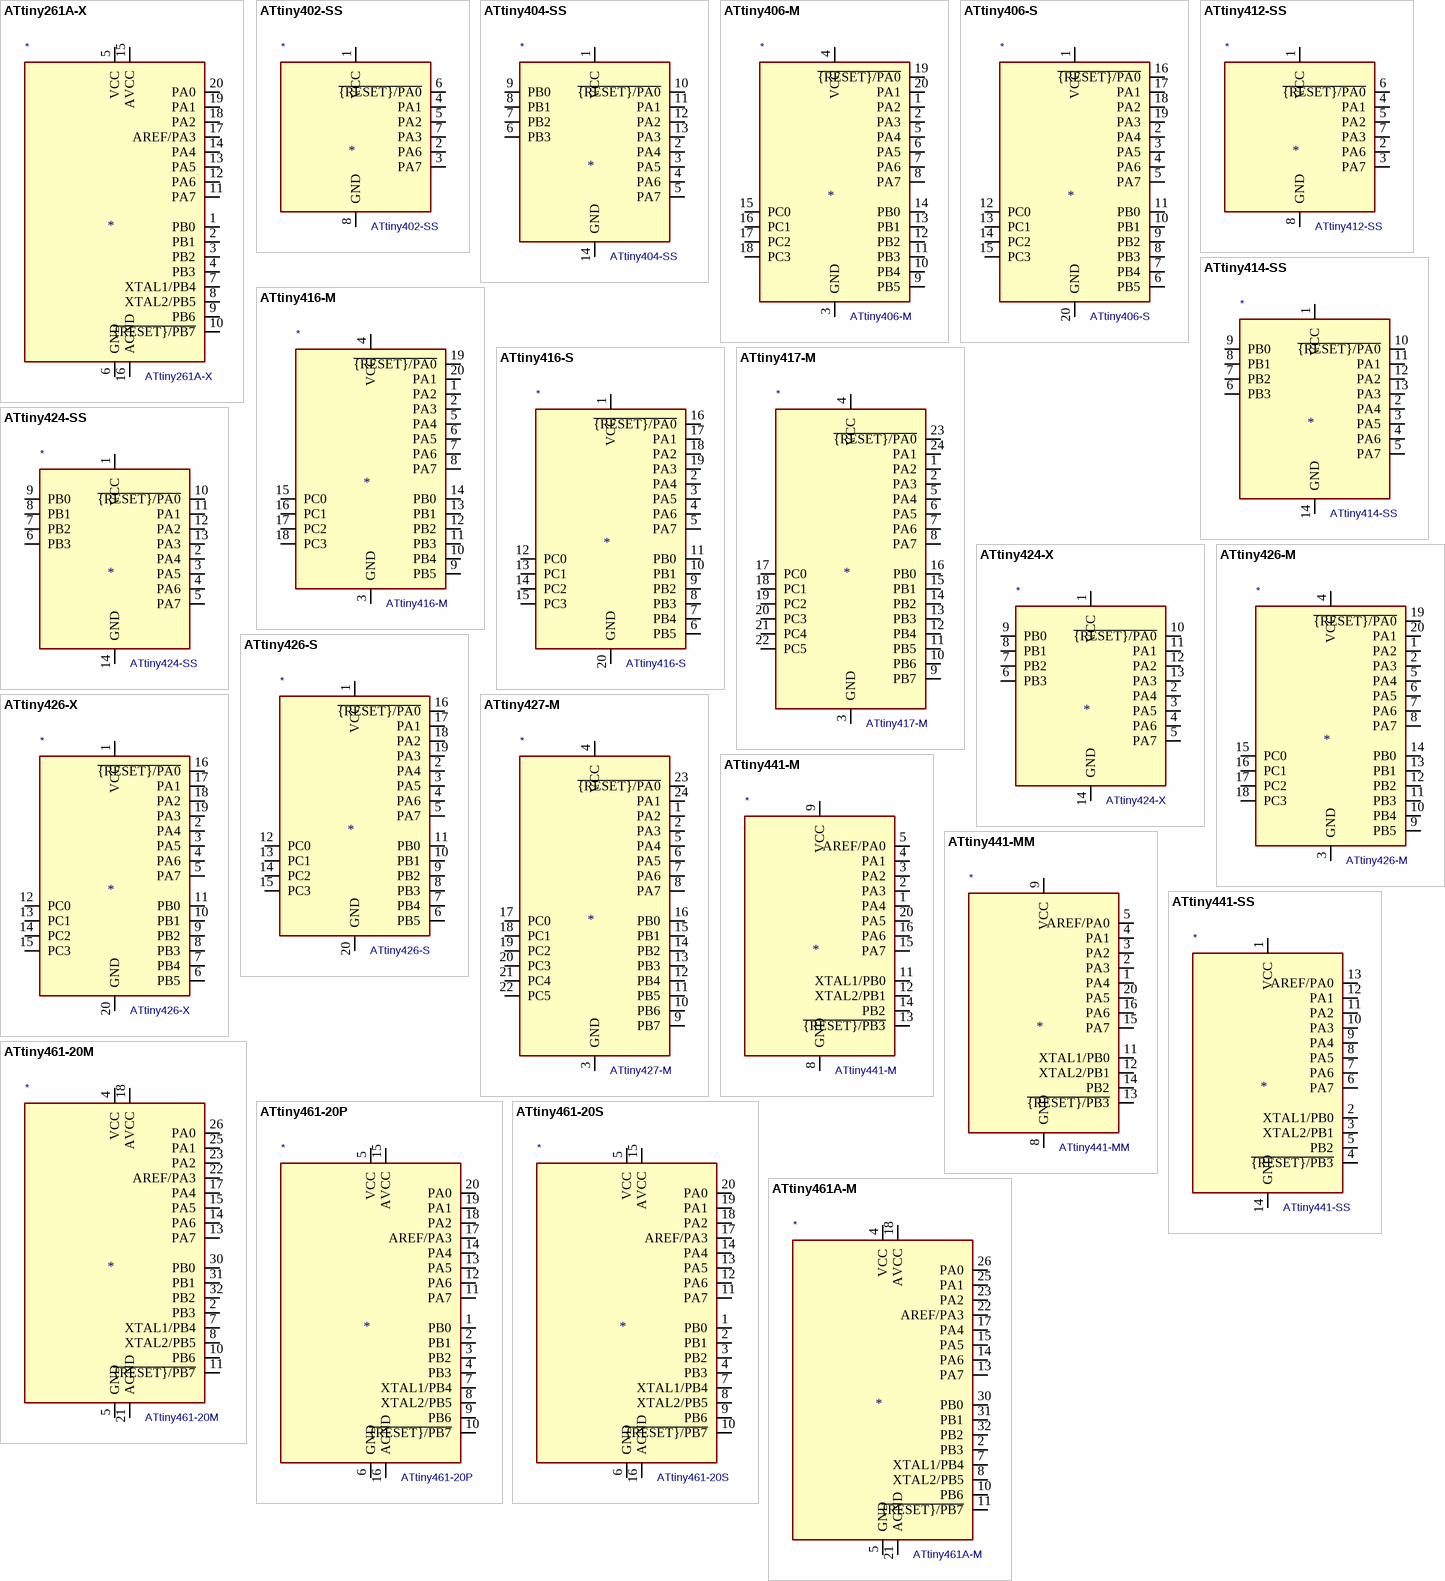
[diagram p5: symbols ATtiny261A-X to ATtiny461A-M]

## ATtiny261A-X
designator *  value ATtiny261A-X
ki_keywords: AVR 8bit Microcontroller tinyAVR; ki_description: 20MHz, 2kB Flash, 128B SRAM, 128B EEPROM, TSSOP-20; ki_fp_filters: TSSOP*4.4x6.5mm*P0.65mm*; Footprint: Package_SO:TSSOP-20_4.4x6.5mm_P0.65mm; Supplier: http://ww1.microchip.com/downloads/en/DeviceDoc/doc8197.pdf
footprint TSSOP-20_4.4x6.5mm_P0.65mm
pins: 1 PB0 (io), 2 PB1 (io), 3 PB2 (io), 4 PB3 (io), 5 VCC (power), 6 GND (power), 7 XTAL1/PB4 (io), 8 XTAL2/PB5 (io), 9 PB6 (io), 10 ~{{RESET}/PB7} (io), 11 PA7 (io), 12 PA6 (io), 13 PA5 (io), 14 PA4 (io), 15 AVCC (power), 16 AGND (power), 17 AREF/PA3 (io), 18 PA2 (io), 19 PA1 (io), 20 PA0 (io)

## ATtiny402-SS
designator *  value ATtiny402-SS
ki_keywords: AVR 8bit Microcontroller tinyAVR; ki_description: 20MHz, 4kB Flash, 256B SRAM, 128B EEPROM, SOIC-8; ki_fp_filters: SOIC*3.9x4.9mm*P1.27mm*; Footprint: Package_SO:SOIC-8_3.9x4.9mm_P1.27mm; Supplier: http://ww1.microchip.com/downloads/en/DeviceDoc/ATtiny202-402-AVR-MCU-with-Core-Independent-Peripherals_and-picoPower-40001969A.pdf
footprint SOIC-8_3.9x4.9mm_P1.27mm
pins: 1 VCC (power), 2 PA6 (io), 3 PA7 (io), 4 PA1 (io), 5 PA2 (io), 6 ~{{RESET}/PA0} (io), 7 PA3 (io), 8 GND (power)

## ATtiny404-SS
designator *  value ATtiny404-SS
ki_keywords: AVR 8bit Microcontroller tinyAVR; ki_description: 20MHz, 4kB Flash, 256B SRAM, 128B EEPROM, SOIC-14; ki_fp_filters: SOIC*3.9x8.7mm*P1.27mm*; Footprint: Package_SO:SOIC-14_3.9x8.7mm_P1.27mm; Supplier: http://ww1.microchip.com/downloads/en/DeviceDoc/50002687A.pdf
footprint SOIC-14_3.9x8.7mm_P1.27mm
pins: 1 VCC (power), 2 PA4 (io), 3 PA5 (io), 4 PA6 (io), 5 PA7 (io), 6 PB3 (io), 7 PB2 (io), 8 PB1 (io), 9 PB0 (io), 10 ~{{RESET}/PA0} (io), 11 PA1 (io), 12 PA2 (io), 13 PA3 (io), 14 GND (power)

## ATtiny406-M
designator *  value ATtiny406-M
ki_keywords: AVR 8bit Microcontroller tinyAVR; ki_description: 20MHz, 4kB Flash, 256B SRAM, 128B EEPROM, VQFN-20; ki_fp_filters: VQFN*1EP*3x3mm*P0.4mm*; Footprint: Package_DFN_QFN:VQFN-20-1EP_3x3mm_P0.4mm_EP1.7x1.7mm; Supplier: http://ww1.microchip.com/downloads/en/DeviceDoc/Microchip%208bit%20mcu%20AVR%20ATtiny406%20data%20sheet%2040001976A.pdf
footprint VQFN-20-1EP_3x3mm_P0.4mm_EP1.7x1.7mm
pins: 1 PA2 (io), 2 PA3 (io), 3 GND (power), 4 VCC (power), 5 PA4 (io), 6 PA5 (io), 7 PA6 (io), 8 PA7 (io), 9 PB5 (io), 10 PB4 (io), 11 PB3 (io), 12 PB2 (io), 13 PB1 (io), 14 PB0 (io), 15 PC0 (io), 16 PC1 (io), 17 PC2 (io), 18 PC3 (io), 19 ~{{RESET}/PA0} (io), 20 PA1 (io), 21 GND hidden

## ATtiny406-S
designator *  value ATtiny406-S
ki_keywords: AVR 8bit Microcontroller tinyAVR; ki_description: 20MHz, 4kB Flash, 256B SRAM, 128B EEPROM, SOIC-20; ki_fp_filters: SOIC*7.5x12.8mm*P1.27mm*; Footprint: Package_SO:SOIC-20W_7.5x12.8mm_P1.27mm; Supplier: http://ww1.microchip.com/downloads/en/DeviceDoc/Microchip%208bit%20mcu%20AVR%20ATtiny406%20data%20sheet%2040001976A.pdf
footprint SOIC-20W_7.5x12.8mm_P1.27mm
pins: 1 VCC (power), 2 PA4 (io), 3 PA5 (io), 4 PA6 (io), 5 PA7 (io), 6 PB5 (io), 7 PB4 (io), 8 PB3 (io), 9 PB2 (io), 10 PB1 (io), 11 PB0 (io), 12 PC0 (io), 13 PC1 (io), 14 PC2 (io), 15 PC3 (io), 16 ~{{RESET}/PA0} (io), 17 PA1 (io), 18 PA2 (io), 19 PA3 (io), 20 GND (power)

## ATtiny412-SS
designator *  value ATtiny412-SS
ki_keywords: AVR 8bit Microcontroller tinyAVR; ki_description: 20MHz, 4kB Flash, 256B SRAM, 128B EEPROM, SOIC-8; ki_fp_filters: SOIC*3.9x4.9mm*P1.27mm*; Footprint: Package_SO:SOIC-8_3.9x4.9mm_P1.27mm; Supplier: http://ww1.microchip.com/downloads/en/DeviceDoc/40001911A.pdf
footprint SOIC-8_3.9x4.9mm_P1.27mm
pins: 1 VCC (power), 2 PA6 (io), 3 PA7 (io), 4 PA1 (io), 5 PA2 (io), 6 ~{{RESET}/PA0} (io), 7 PA3 (io), 8 GND (power)

## ATtiny414-SS
designator *  value ATtiny414-SS
ki_keywords: AVR 8bit Microcontroller tinyAVR; ki_description: 20MHz, 4kB Flash, 256B SRAM, 128B EEPROM, SOIC-14; ki_fp_filters: SOIC*3.9x8.7mm*P1.27mm*; Footprint: Package_SO:SOIC-14_3.9x8.7mm_P1.27mm; Supplier: http://ww1.microchip.com/downloads/en/DeviceDoc/40001912A.pdf
footprint SOIC-14_3.9x8.7mm_P1.27mm
pins: 1 VCC (power), 2 PA4 (io), 3 PA5 (io), 4 PA6 (io), 5 PA7 (io), 6 PB3 (io), 7 PB2 (io), 8 PB1 (io), 9 PB0 (io), 10 ~{{RESET}/PA0} (io), 11 PA1 (io), 12 PA2 (io), 13 PA3 (io), 14 GND (power)

## ATtiny416-M
designator *  value ATtiny416-M
ki_keywords: AVR 8bit Microcontroller tinyAVR; ki_description: 20MHz, 4kB Flash, 256B SRAM, 128B EEPROM, VQFN-20; ki_fp_filters: VQFN*1EP*3x3mm*P0.4mm*; Footprint: Package_DFN_QFN:VQFN-20-1EP_3x3mm_P0.4mm_EP1.7x1.7mm; Supplier: http://ww1.microchip.com/downloads/en/DeviceDoc/40001913A.pdf
footprint VQFN-20-1EP_3x3mm_P0.4mm_EP1.7x1.7mm
pins: 1 PA2 (io), 2 PA3 (io), 3 GND (power), 4 VCC (power), 5 PA4 (io), 6 PA5 (io), 7 PA6 (io), 8 PA7 (io), 9 PB5 (io), 10 PB4 (io), 11 PB3 (io), 12 PB2 (io), 13 PB1 (io), 14 PB0 (io), 15 PC0 (io), 16 PC1 (io), 17 PC2 (io), 18 PC3 (io), 19 ~{{RESET}/PA0} (io), 20 PA1 (io), 21 GND hidden

## ATtiny416-S
designator *  value ATtiny416-S
ki_keywords: AVR 8bit Microcontroller tinyAVR; ki_description: 20MHz, 4kB Flash, 256B SRAM, 128B EEPROM, SOIC-20; ki_fp_filters: SOIC*7.5x12.8mm*P1.27mm*; Footprint: Package_SO:SOIC-20W_7.5x12.8mm_P1.27mm; Supplier: http://ww1.microchip.com/downloads/en/DeviceDoc/40001913A.pdf
footprint SOIC-20W_7.5x12.8mm_P1.27mm
pins: 1 VCC (power), 2 PA4 (io), 3 PA5 (io), 4 PA6 (io), 5 PA7 (io), 6 PB5 (io), 7 PB4 (io), 8 PB3 (io), 9 PB2 (io), 10 PB1 (io), 11 PB0 (io), 12 PC0 (io), 13 PC1 (io), 14 PC2 (io), 15 PC3 (io), 16 ~{{RESET}/PA0} (io), 17 PA1 (io), 18 PA2 (io), 19 PA3 (io), 20 GND (power)

## ATtiny417-M
designator *  value ATtiny417-M
ki_keywords: AVR 8bit Microcontroller tinyAVR; ki_description: 20MHz, 4kB Flash, 256B SRAM, 128B EEPROM, VQFN-24; ki_fp_filters: QFN*1EP*4x4mm*P0.5mm*; Footprint: Package_DFN_QFN:QFN-24-1EP_4x4mm_P0.5mm_EP2.6x2.6mm; Supplier: http://ww1.microchip.com/downloads/en/DeviceDoc/40001901B.pdf
footprint QFN-24-1EP_4x4mm_P0.5mm_EP2.6x2.6mm
pins: 1 PA2 (io), 2 PA3 (io), 3 GND (power), 4 VCC (power), 5 PA4 (io), 6 PA5 (io), 7 PA6 (io), 8 PA7 (io), 9 PB7 (io), 10 PB6 (io), 11 PB5 (io), 12 PB4 (io), 13 PB3 (io), 14 PB2 (io), 15 PB1 (io), 16 PB0 (io), 17 PC0 (io), 18 PC1 (io), 19 PC2 (io), 20 PC3 (io), 21 PC4 (io), 22 PC5 (io), 23 ~{{RESET}/PA0} (io), 24 PA1 (io), 25 GND hidden

## ATtiny424-SS
designator *  value ATtiny424-SS
ki_keywords: AVR 8bit Microcontroller tinyAVR; ki_description: 20MHz, 4kB Flash, 512B SRAM, 128B EEPROM, SOIC-14; ki_fp_filters: SOIC*3.9x8.7mm*P1.27mm*; Footprint: Package_SO:SOIC-14_3.9x8.7mm_P1.27mm; Supplier: https://ww1.microchip.com/downloads/en/DeviceDoc/ATtiny424-426-427-824-826-827-DataSheet-DS40002311A.pdf
footprint SOIC-14_3.9x8.7mm_P1.27mm
pins: 1 VCC (power), 2 PA4 (io), 3 PA5 (io), 4 PA6 (io), 5 PA7 (io), 6 PB3 (io), 7 PB2 (io), 8 PB1 (io), 9 PB0 (io), 10 ~{{RESET}/PA0} (io), 11 PA1 (io), 12 PA2 (io), 13 PA3 (io), 14 GND (power)

## ATtiny424-X
designator *  value ATtiny424-X
ki_keywords: AVR 8bit Microcontroller tinyAVR; ki_description: 20MHz, 4kB Flash, 512B SRAM, 128B EEPROM, TSSOP-14; ki_fp_filters: TSSOP*4.4x5mm*P0.65mm*; Footprint: Package_SO:TSSOP-14_4.4x5mm_P0.65mm; Supplier: https://ww1.microchip.com/downloads/en/DeviceDoc/ATtiny424-426-427-824-826-827-DataSheet-DS40002311A.pdf
footprint TSSOP-14_4.4x5mm_P0.65mm
pins: 1 VCC (power), 2 PA4 (io), 3 PA5 (io), 4 PA6 (io), 5 PA7 (io), 6 PB3 (io), 7 PB2 (io), 8 PB1 (io), 9 PB0 (io), 10 ~{{RESET}/PA0} (io), 11 PA1 (io), 12 PA2 (io), 13 PA3 (io), 14 GND (power)

## ATtiny426-M
designator *  value ATtiny426-M
ki_keywords: AVR 8bit Microcontroller tinyAVR; ki_description: 20MHz, 4kB Flash, 512B SRAM, 128B EEPROM, VQFN-20; ki_fp_filters: VQFN*1EP*3x3mm*P0.4mm*; Footprint: Package_DFN_QFN:VQFN-20-1EP_3x3mm_P0.4mm_EP1.7x1.7mm; Supplier: https://ww1.microchip.com/downloads/en/DeviceDoc/ATtiny424-426-427-824-826-827-DataSheet-DS40002311A.pdf
footprint VQFN-20-1EP_3x3mm_P0.4mm_EP1.7x1.7mm
pins: 1 PA2 (io), 2 PA3 (io), 3 GND (power), 4 VCC (power), 5 PA4 (io), 6 PA5 (io), 7 PA6 (io), 8 PA7 (io), 9 PB5 (io), 10 PB4 (io), 11 PB3 (io), 12 PB2 (io), 13 PB1 (io), 14 PB0 (io), 15 PC0 (io), 16 PC1 (io), 17 PC2 (io), 18 PC3 (io), 19 ~{{RESET}/PA0} (io), 20 PA1 (io), 21 GND hidden

## ATtiny426-S
designator *  value ATtiny426-S
ki_keywords: AVR 8bit Microcontroller tinyAVR; ki_description: 20MHz, 4kB Flash, 512B SRAM, 128B EEPROM, SOIC-20; ki_fp_filters: SOIC*7.5x12.8mm*P1.27mm*; Footprint: Package_SO:SOIC-20W_7.5x12.8mm_P1.27mm; Supplier: https://ww1.microchip.com/downloads/en/DeviceDoc/ATtiny424-426-427-824-826-827-DataSheet-DS40002311A.pdf
footprint SOIC-20W_7.5x12.8mm_P1.27mm
pins: 1 VCC (power), 2 PA4 (io), 3 PA5 (io), 4 PA6 (io), 5 PA7 (io), 6 PB5 (io), 7 PB4 (io), 8 PB3 (io), 9 PB2 (io), 10 PB1 (io), 11 PB0 (io), 12 PC0 (io), 13 PC1 (io), 14 PC2 (io), 15 PC3 (io), 16 ~{{RESET}/PA0} (io), 17 PA1 (io), 18 PA2 (io), 19 PA3 (io), 20 GND (power)

## ATtiny426-X
designator *  value ATtiny426-X
ki_keywords: AVR 8bit Microcontroller tinyAVR; ki_description: 20MHz, 4kB Flash, 512B SRAM, 128B EEPROM, SSOP-20; ki_fp_filters: SSOP*5.3x7.2mm*P0.65mm*; Footprint: Package_SO:SSOP-20_5.3x7.2mm_P0.65mm; Supplier: https://ww1.microchip.com/downloads/en/DeviceDoc/ATtiny424-426-427-824-826-827-DataSheet-DS40002311A.pdf
footprint SSOP-20_5.3x7.2mm_P0.65mm
pins: 1 VCC (power), 2 PA4 (io), 3 PA5 (io), 4 PA6 (io), 5 PA7 (io), 6 PB5 (io), 7 PB4 (io), 8 PB3 (io), 9 PB2 (io), 10 PB1 (io), 11 PB0 (io), 12 PC0 (io), 13 PC1 (io), 14 PC2 (io), 15 PC3 (io), 16 ~{{RESET}/PA0} (io), 17 PA1 (io), 18 PA2 (io), 19 PA3 (io), 20 GND (power)

## ATtiny427-M
designator *  value ATtiny427-M
ki_keywords: AVR 8bit Microcontroller tinyAVR; ki_description: 20MHz, 4kB Flash, 512B SRAM, 128B EEPROM, VQFN-24; ki_fp_filters: QFN*1EP*4x4mm*P0.5mm*; Footprint: Package_DFN_QFN:QFN-24-1EP_4x4mm_P0.5mm_EP2.6x2.6mm; Supplier: https://ww1.microchip.com/downloads/en/DeviceDoc/ATtiny424-426-427-824-826-827-DataSheet-DS40002311A.pdf
footprint QFN-24-1EP_4x4mm_P0.5mm_EP2.6x2.6mm
pins: 1 PA2 (io), 2 PA3 (io), 3 GND (power), 4 VCC (power), 5 PA4 (io), 6 PA5 (io), 7 PA6 (io), 8 PA7 (io), 9 PB7 (io), 10 PB6 (io), 11 PB5 (io), 12 PB4 (io), 13 PB3 (io), 14 PB2 (io), 15 PB1 (io), 16 PB0 (io), 17 PC0 (io), 18 PC1 (io), 19 PC2 (io), 20 PC3 (io), 21 PC4 (io), 22 PC5 (io), 23 ~{{RESET}/PA0} (io), 24 PA1 (io), 25 GND hidden

## ATtiny441-M
designator *  value ATtiny441-M
ki_keywords: AVR 8bit Microcontroller tinyAVR; ki_description: 16MHz, 4kB Flash, 256B SRAM, 256B EEPROM, ADC, ACI, debugWIRE, QFN-20; ki_fp_filters: QFN*1EP*4x4mm*P0.5mm*; Footprint: Package_DFN_QFN:QFN-20-1EP_4x4mm_P0.5mm_EP2.6x2.6mm; Supplier: http://ww1.microchip.com/downloads/en/DeviceDoc/Atmel-8495-8-bit-AVR-Microcontrollers-ATtiny441-ATtiny841_Datasheet.pdf
footprint QFN-20-1EP_4x4mm_P0.5mm_EP2.6x2.6mm
pins: 1 PA4 (io), 2 PA3 (io), 3 PA2 (io), 4 PA1 (io), 5 AREF/PA0 (io), 6 NC (in) hidden, 7 NC (in) hidden, 8 GND (power), 9 VCC (power), 10 NC (in) hidden, 11 XTAL1/PB0 (io), 12 XTAL2/PB1 (io), 13 ~{{RESET}/PB3} (io), 14 PB2 (io), 15 PA7 (io), 16 PA6 (io), 17 NC (in) hidden, 18 NC (in) hidden, 19 NC (in) hidden, 20 PA5 (io), 21 GND hidden

## ATtiny441-MM
designator *  value ATtiny441-MM
ki_keywords: AVR 8bit Microcontroller tinyAVR; ki_description: 16MHz, 4kB Flash, 256B SRAM, 256B EEPROM, ADC, ACI, debugWIRE, QFN-20; ki_fp_filters: QFN*1EP*3x3mm*P0.45mm*; Footprint: Package_DFN_QFN:QFN-20-1EP_3x3mm_P0.45mm_EP1.6x1.6mm; Supplier: http://ww1.microchip.com/downloads/en/DeviceDoc/Atmel-8495-8-bit-AVR-Microcontrollers-ATtiny441-ATtiny841_Datasheet.pdf
footprint QFN-20-1EP_3x3mm_P0.45mm_EP1.6x1.6mm
pins: 1 PA4 (io), 2 PA3 (io), 3 PA2 (io), 4 PA1 (io), 5 AREF/PA0 (io), 6 NC (in) hidden, 7 NC (in) hidden, 8 GND (power), 9 VCC (power), 10 NC (in) hidden, 11 XTAL1/PB0 (io), 12 XTAL2/PB1 (io), 13 ~{{RESET}/PB3} (io), 14 PB2 (io), 15 PA7 (io), 16 PA6 (io), 17 NC (in) hidden, 18 NC (in) hidden, 19 NC (in) hidden, 20 PA5 (io), 21 GND hidden

## ATtiny441-SS
designator *  value ATtiny441-SS
ki_keywords: AVR 8bit Microcontroller tinyAVR; ki_description: 16MHz, 4kB Flash, 256B SRAM, 256B EEPROM, ADC, ACI, debugWIRE, SOIC-14; ki_fp_filters: SOIC*3.9x8.7mm*P1.27mm*; Footprint: Package_SO:SOIC-14_3.9x8.7mm_P1.27mm; Supplier: http://ww1.microchip.com/downloads/en/DeviceDoc/Atmel-8495-8-bit-AVR-Microcontrollers-ATtiny441-ATtiny841_Datasheet.pdf
footprint SOIC-14_3.9x8.7mm_P1.27mm
pins: 1 VCC (power), 2 XTAL1/PB0 (io), 3 XTAL2/PB1 (io), 4 ~{{RESET}/PB3} (io), 5 PB2 (io), 6 PA7 (io), 7 PA6 (io), 8 PA5 (io), 9 PA4 (io), 10 PA3 (io), 11 PA2 (io), 12 PA1 (io), 13 AREF/PA0 (io), 14 GND (power)

## ATtiny461-20M
designator *  value ATtiny461-20M
ki_keywords: AVR 8bit Microcontroller tinyAVR; ki_description: 20MHz, 4kB Flash, 256B SRAM, 256B EEPROM, QFN-32; ki_fp_filters: QFN*1EP*5x5mm*P0.5mm*; Footprint: Package_DFN_QFN:QFN-32-1EP_5x5mm_P0.5mm_EP3.1x3.1mm; Supplier: http://ww1.microchip.com/downloads/en/DeviceDoc/atmel-2588-8-bit-avr-microcontrollers-tinyavr-attiny261-attiny461-attiny861_datasheet.pdf
footprint QFN-32-1EP_5x5mm_P0.5mm_EP3.1x3.1mm
pins: 1 NC (in) hidden, 2 PB3 (io), 3 NC (in) hidden, 4 VCC (power), 5 GND (power), 6 NC (in) hidden, 7 XTAL1/PB4 (io), 8 XTAL2/PB5 (io), 9 NC (in) hidden, 10 PB6 (io), 11 ~{{RESET}/PB7} (io), 12 NC (in) hidden, 13 PA7 (io), 14 PA6 (io), 15 PA5 (io), 16 NC (in) hidden, 17 PA4 (io), 18 AVCC (power), 19 NC (in) hidden, 20 NC (in) hidden, 21 AGND (power), 22 AREF/PA3 (io), 23 PA2 (io), 24 NC (in) hidden, 25 PA1 (io), 26 PA0 (io), 27 NC (in) hidden, 28 NC (in) hidden, 29 NC (in) hidden, 30 PB0 (io), 31 PB1 (io), 32 PB2 (io), 33 GND hidden

## ATtiny461-20P
designator *  value ATtiny461-20P
ki_keywords: AVR 8bit Microcontroller tinyAVR; ki_description: 20MHz, 4kB Flash, 256B SRAM, 256B EEPROM, DIP-20; ki_fp_filters: DIP*W7.62mm*; Footprint: Package_DIP:DIP-20_W7.62mm; Supplier: http://ww1.microchip.com/downloads/en/DeviceDoc/atmel-2588-8-bit-avr-microcontrollers-tinyavr-attiny261-attiny461-attiny861_datasheet.pdf
footprint DIP-20_W7.62mm
pins: 1 PB0 (io), 2 PB1 (io), 3 PB2 (io), 4 PB3 (io), 5 VCC (power), 6 GND (power), 7 XTAL1/PB4 (io), 8 XTAL2/PB5 (io), 9 PB6 (io), 10 ~{{RESET}/PB7} (io), 11 PA7 (io), 12 PA6 (io), 13 PA5 (io), 14 PA4 (io), 15 AVCC (power), 16 AGND (power), 17 AREF/PA3 (io), 18 PA2 (io), 19 PA1 (io), 20 PA0 (io)

## ATtiny461-20S
designator *  value ATtiny461-20S
ki_keywords: AVR 8bit Microcontroller tinyAVR; ki_description: 20MHz, 4kB Flash, 256B SRAM, 256B EEPROM, SOIC-20; ki_fp_filters: SOIC*7.5x12.8mm*P1.27mm*; Footprint: Package_SO:SOIC-20W_7.5x12.8mm_P1.27mm; Supplier: http://ww1.microchip.com/downloads/en/DeviceDoc/atmel-2588-8-bit-avr-microcontrollers-tinyavr-attiny261-attiny461-attiny861_datasheet.pdf
footprint SOIC-20W_7.5x12.8mm_P1.27mm
pins: 1 PB0 (io), 2 PB1 (io), 3 PB2 (io), 4 PB3 (io), 5 VCC (power), 6 GND (power), 7 XTAL1/PB4 (io), 8 XTAL2/PB5 (io), 9 PB6 (io), 10 ~{{RESET}/PB7} (io), 11 PA7 (io), 12 PA6 (io), 13 PA5 (io), 14 PA4 (io), 15 AVCC (power), 16 AGND (power), 17 AREF/PA3 (io), 18 PA2 (io), 19 PA1 (io), 20 PA0 (io)

## ATtiny461A-M
designator *  value ATtiny461A-M
ki_keywords: AVR 8bit Microcontroller tinyAVR; ki_description: 20MHz, 4kB Flash, 256B SRAM, 256B EEPROM, QFN-32; ki_fp_filters: QFN*1EP*5x5mm*P0.5mm*; Footprint: Package_DFN_QFN:QFN-32-1EP_5x5mm_P0.5mm_EP3.1x3.1mm; Supplier: http://ww1.microchip.com/downloads/en/DeviceDoc/doc8197.pdf
footprint QFN-32-1EP_5x5mm_P0.5mm_EP3.1x3.1mm
pins: 1 NC (in) hidden, 2 PB3 (io), 3 NC (in) hidden, 4 VCC (power), 5 GND (power), 6 NC (in) hidden, 7 XTAL1/PB4 (io), 8 XTAL2/PB5 (io), 9 NC (in) hidden, 10 PB6 (io), 11 ~{{RESET}/PB7} (io), 12 NC (in) hidden, 13 PA7 (io), 14 PA6 (io), 15 PA5 (io), 16 NC (in) hidden, 17 PA4 (io), 18 AVCC (power), 19 NC (in) hidden, 20 NC (in) hidden, 21 AGND (power), 22 AREF/PA3 (io), 23 PA2 (io), 24 NC (in) hidden, 25 PA1 (io), 26 PA0 (io), 27 NC (in) hidden, 28 NC (in) hidden, 29 NC (in) hidden, 30 PB0 (io), 31 PB1 (io), 32 PB2 (io), 33 GND hidden

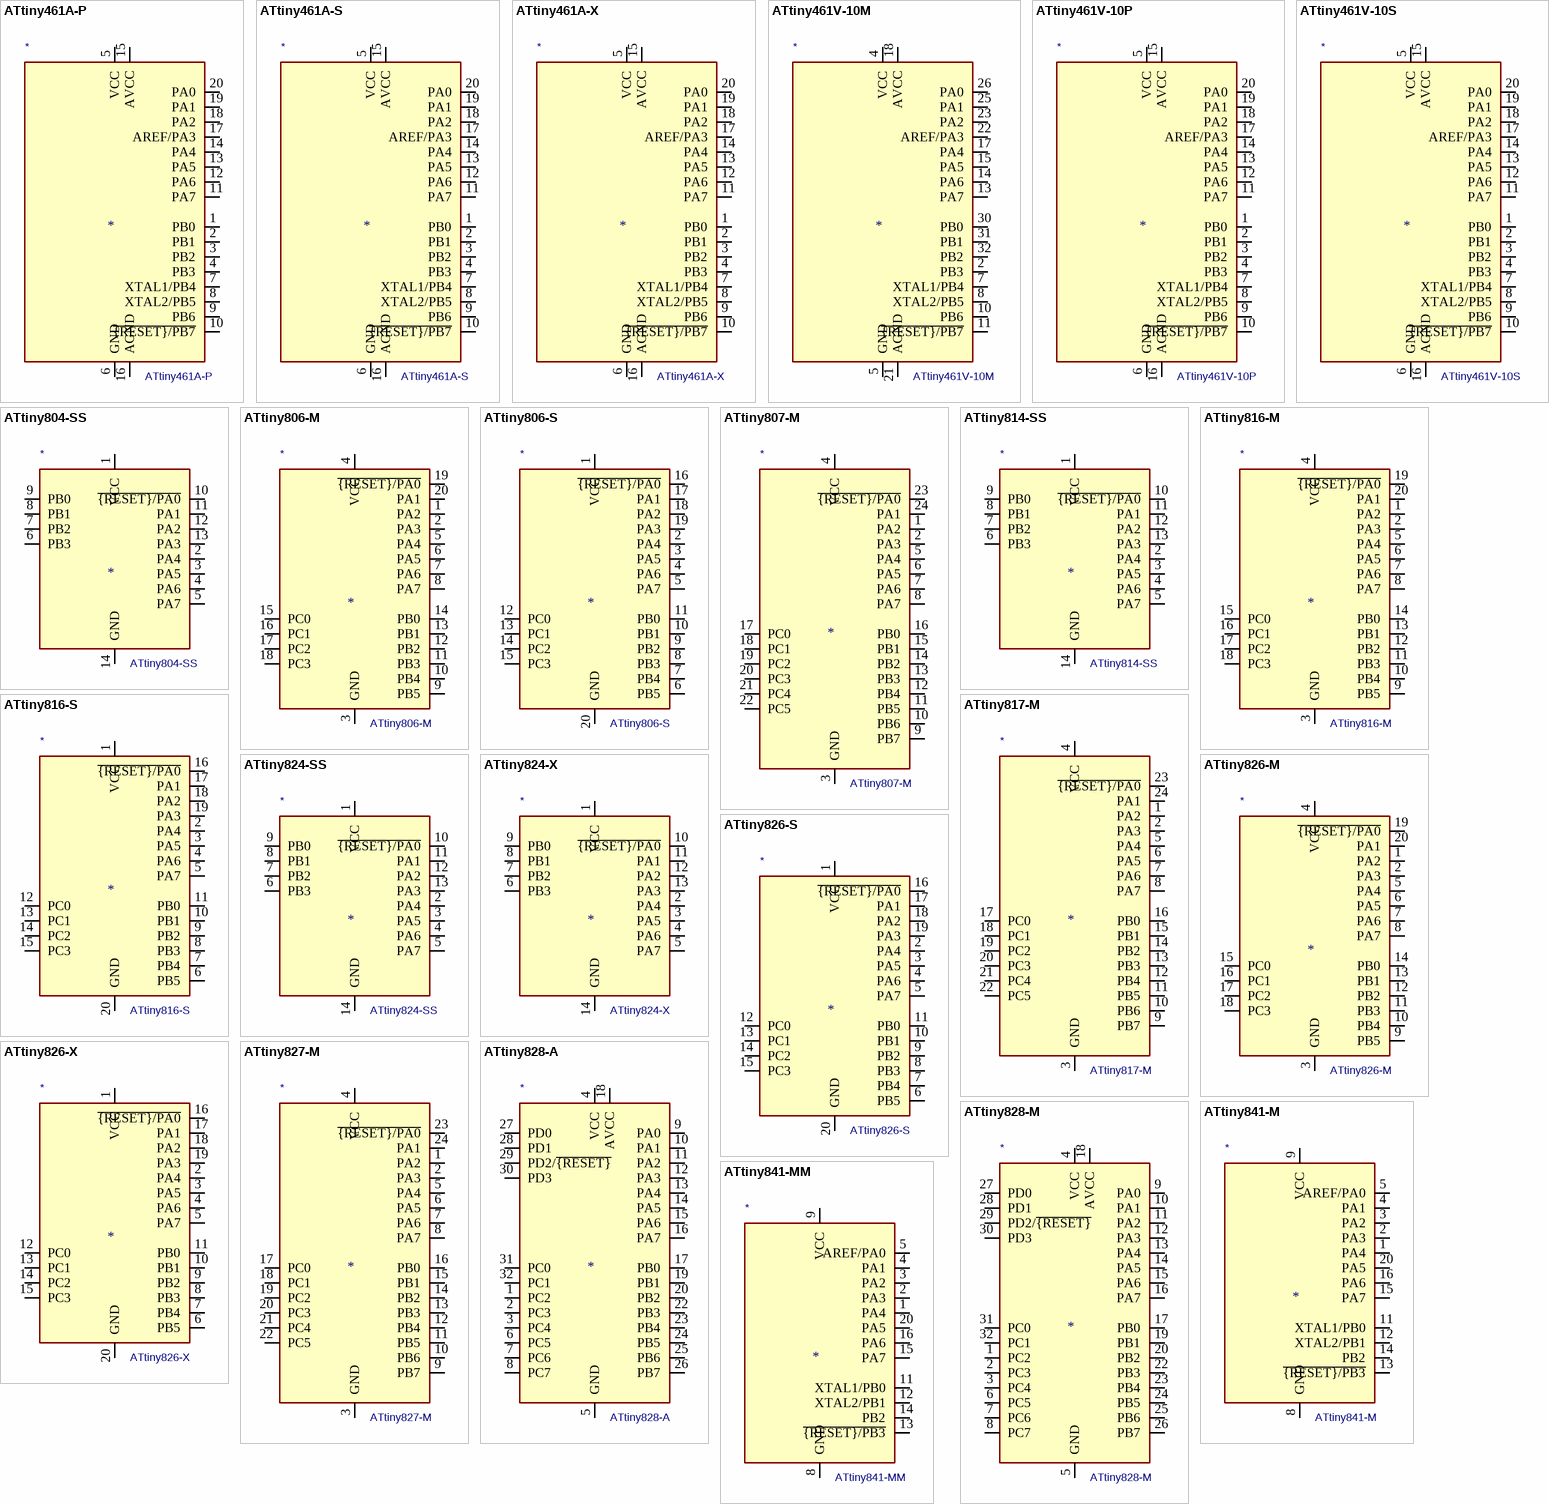
[diagram p6: symbols ATtiny461A-P to ATtiny841-MM]

## ATtiny461A-P
designator *  value ATtiny461A-P
ki_keywords: AVR 8bit Microcontroller tinyAVR; ki_description: 20MHz, 4kB Flash, 256B SRAM, 256B EEPROM, DIP-20; ki_fp_filters: DIP*W7.62mm*; Footprint: Package_DIP:DIP-20_W7.62mm; Supplier: http://ww1.microchip.com/downloads/en/DeviceDoc/doc8197.pdf
footprint DIP-20_W7.62mm
pins: 1 PB0 (io), 2 PB1 (io), 3 PB2 (io), 4 PB3 (io), 5 VCC (power), 6 GND (power), 7 XTAL1/PB4 (io), 8 XTAL2/PB5 (io), 9 PB6 (io), 10 ~{{RESET}/PB7} (io), 11 PA7 (io), 12 PA6 (io), 13 PA5 (io), 14 PA4 (io), 15 AVCC (power), 16 AGND (power), 17 AREF/PA3 (io), 18 PA2 (io), 19 PA1 (io), 20 PA0 (io)